# Altium integrated library NXP_60_26022015.IntLib: 1306 symbols (part 19 of 28)
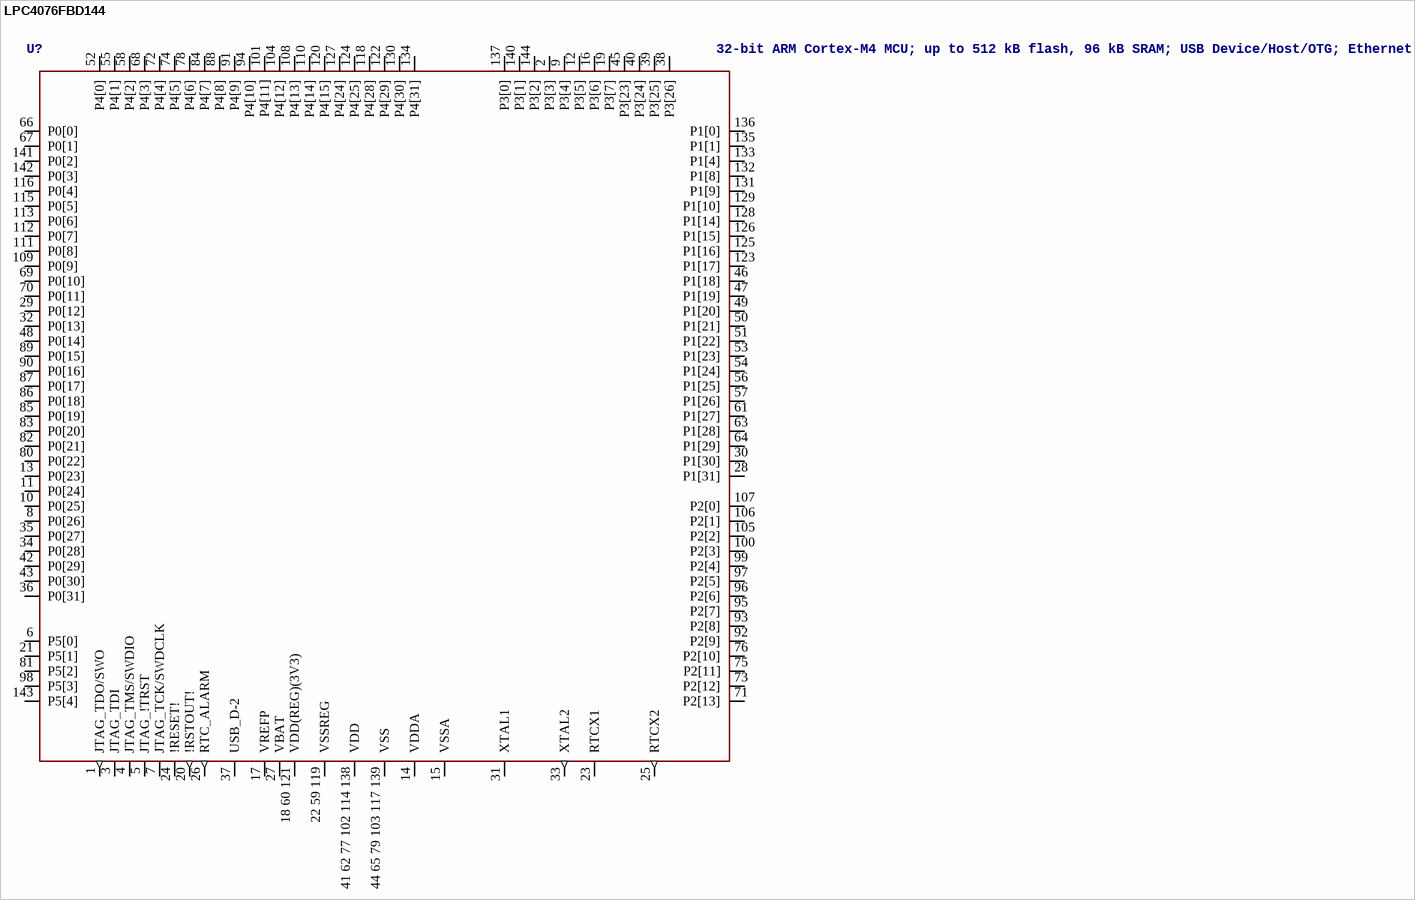
[diagram p203: symbol LPC4076FBD144]

## LPC4076FBD144
designator U?, comment 32-bit ARM Cortex-M4 MCU; up to 512 kB flash, 96 kB SRAM; USB Device/Host/OTG; Ethernet; LCD; EMC; SPIFI The LPC408x/7x is an ARM Cortex-M4 based digital signal controller for embedded applications requiring a high level of integration and low power dissipation. The ARM Cortex-M4 is a next generation core that offers system enhancements such as low power consumption, enhanced debug features, and a high level of support block integration. The ARM Cortex-M4 CPU incorporates a 3-stage pipeline, uses a Harvard architecture with separate local instruction and data buses as well as a third bus for peripherals, and includes an internal prefetch unit that supports speculative branching. The ARM Cortex-M4 supports single-cycle digital signal processing and SIMD instructions. A hardware floating-point processor is integrated in the core for several versions of the part. The LPC408x/7x adds a specialized flash memory accelerator to accomplish optimal performance when executing code from flash. The LPC408x/7x is targeted to operate at up to 120 MHz CPU frequency. The peripheral complement of the LPC408x/7x includes up to 512 kB of flash program memory, up to 96 kB of SRAM data memory, up to 4032 byte of EEPROM data memory, External Memory controller (EMC), LCD, Ethernet, USB Device/Host/OTG, an SPI Flash Interface (SPIFI), a General Purpose DMA controller, five UARTs, three SSP controllers, three I 2 C-bus interfaces, a Quadrature Encoder Interface, four general purpose timers, two general purpose PWMs with six outputs each and one motor control PWM, an ultra-low power RTC with separate battery supply and event recorder, a windowed watchdog timer, a CRC calculation engine and up to 165 general purpose I/O pins. The analog peripherals include one eight-channel 12-bit ADC, two analog comparators, and a DAC. The pinout of LPC408x/7x is intended to allow pin function compatibility with the LPC24xx/23xx as well as the LPC178x/7x families.    AAL Eindhoven MK
footprint SOT486-1
pins: 1 JTAG_TDO/SWO (out), 2 P3[3], 3 JTAG_TDI, 4 JTAG_TMS/SWDIO, 5 JTAG_!TRST, 6 P5[0], 7 JTAG_TCK/SWDCLK, 8 P0[26], 9 P3[4], 10 P0[25], 11 P0[24], 12 P3[5], 13 P0[23], 14 VDDA (power), 15 VSSA (power), 16 P3[6], 17 VREFP (power), 18 60 121 VDD(REG)(3V3) (power), 19 P3[7], 20 !RSTOUT! (out), 21 P5[1], 22 59 119 VSSREG (power), 23 RTCX1, 24 !RESET!, 25 RTCX2 (out), 26 RTC_ALARM (out), 27 VBAT (power), 28 P1[31], 29 P0[12], 30 P1[30], 31 XTAL1, 32 P0[13], 33 XTAL2 (out), 34 P0[28], 35 P0[27], 36 P0[31], 37 USB_D-2, 38 P3[26], 39 P3[25], 40 P3[24], 41 62 77 102 114 138 VDD (power), 42 P0[29], 43 P0[30], 44 65 79 103 117 139 VSS (power), 45 P3[23], 46 P1[18], 47 P1[19], 48 P0[14], 49 P1[20], 50 P1[21], 51 P1[22], 52 P4[0], 53 P1[23], 54 P1[24], 55 P4[1], 56 P1[25], 57 P1[26], 58 P4[2], 61 P1[27], 63 P1[28], 64 P1[29], 66 P0[0], 67 P0[1], 68 P4[3], 69 P0[10], 70 P0[11], 71 P2[13], 72 P4[4], 73 P2[12], 74 P4[5], 75 P2[11], 76 P2[10], 78 P4[6], 80 P0[22], 81 P5[2], 82 P0[21], 83 P0[20], 84 P4[7], 85 P0[19], 86 P0[18], 87 P0[17], 88 P4[8], 89 P0[15], 90 P0[16], 91 P4[9], 92 P2[9], 93 P2[8], 94 P4[10], 95 P2[7], 96 P2[6], 97 P2[5], 98 P5[3], 99 P2[4], 100 P2[3], 101 P4[11], 104 P4[12], 105 P2[2], 106 P2[1], 107 P2[0], 108 P4[13], 109 P0[9], 110 P4[14], 111 P0[8], 112 P0[7], 113 P0[6], 115 P0[5], 116 P0[4], 118 P4[28], 120 P4[15], 122 P4[29], 123 P1[17], 124 P4[25], 125 P1[16], 126 P1[15], 127 P4[24], 128 P1[14], 129 P1[10], 130 P4[30], 131 P1[9], 132 P1[8], 133 P1[4], 134 P4[31], 135 P1[1], 136 P1[0], 137 P3[0], 140 P3[1], 141 P0[2], 142 P0[3], 143 P5[4], 144 P3[2]

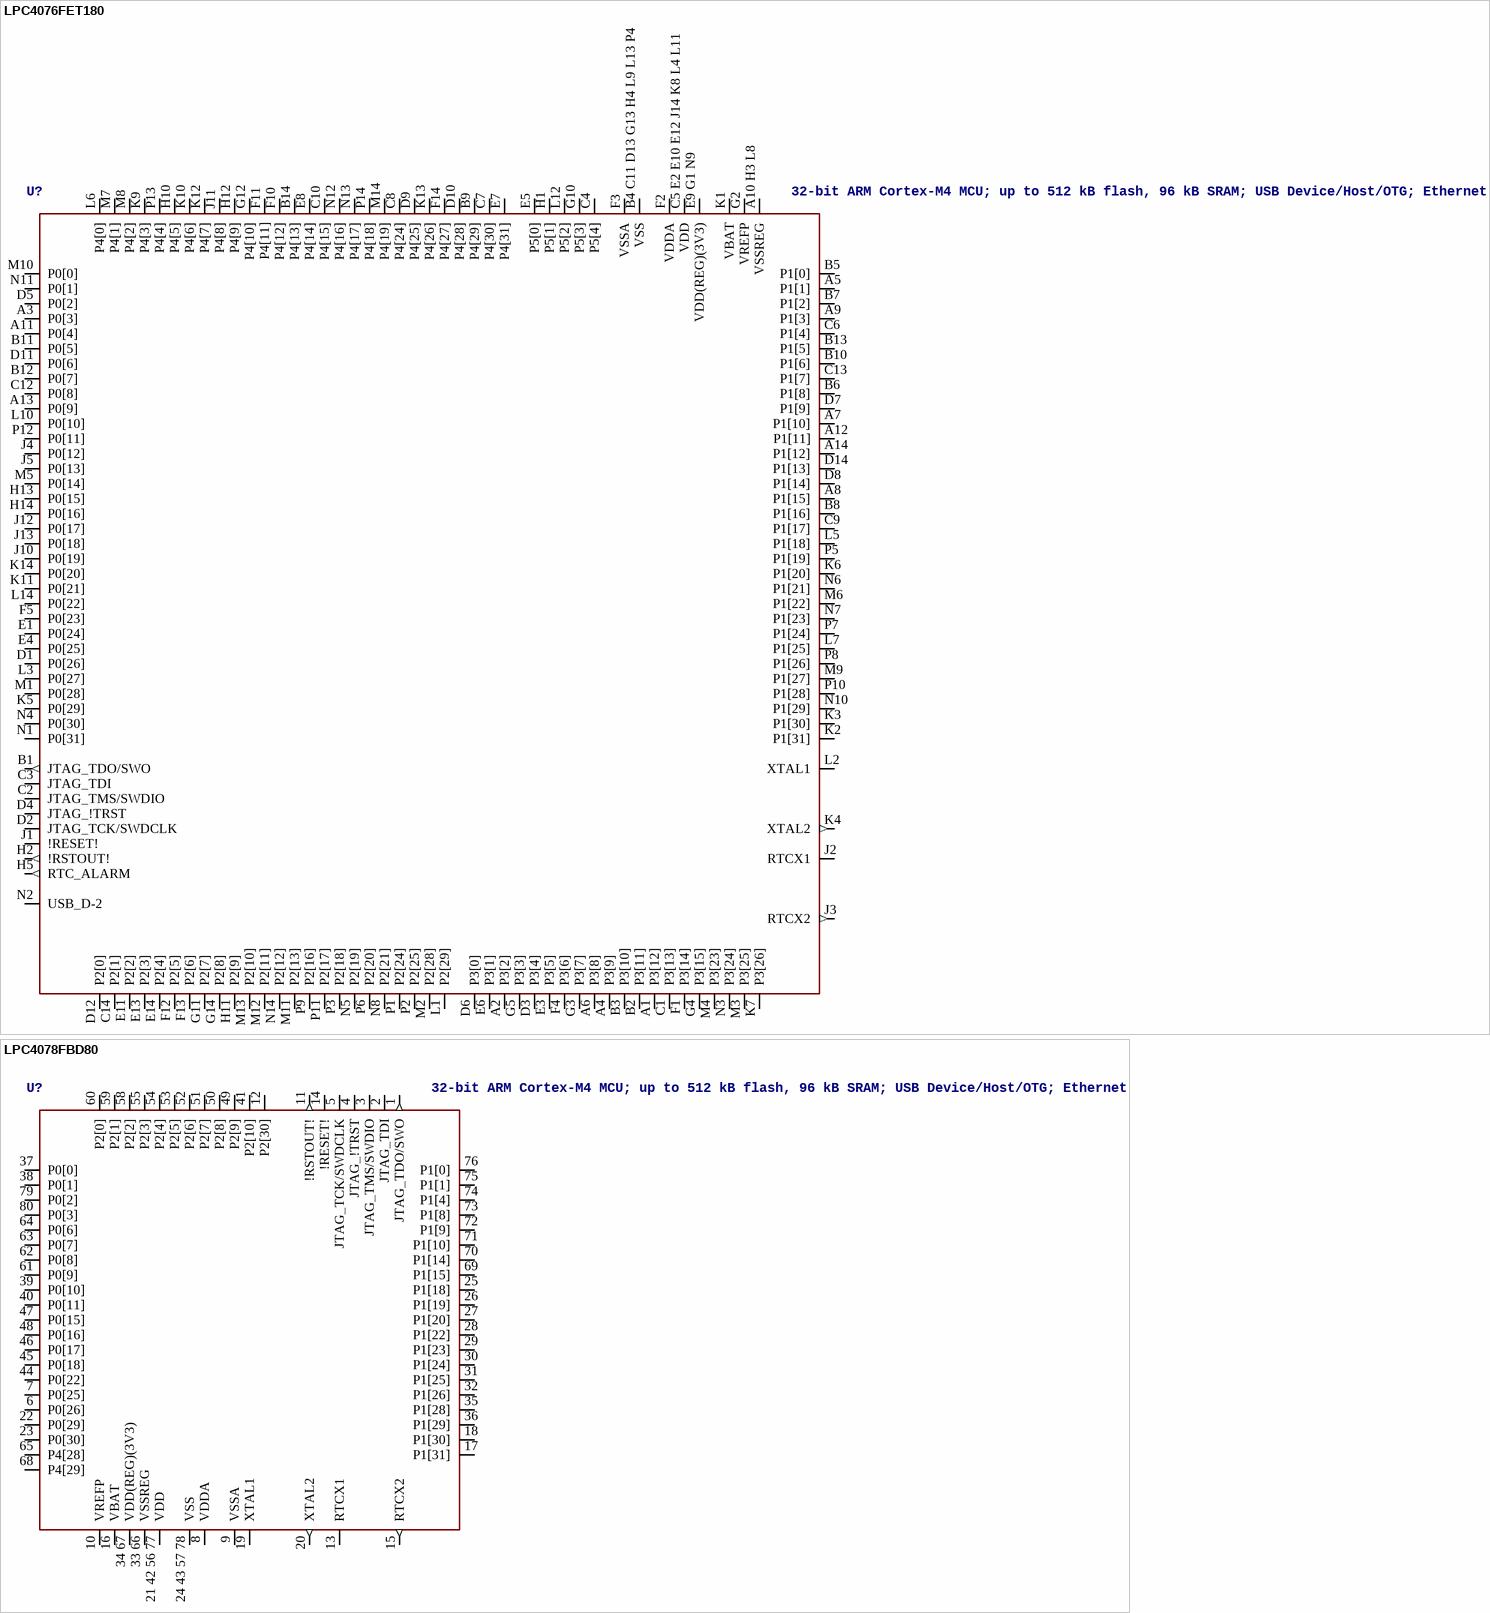
[diagram p121: symbols LPC4076FET180 to LPC4078FBD80]

## LPC4076FET180
designator U?, comment 32-bit ARM Cortex-M4 MCU; up to 512 kB flash, 96 kB SRAM; USB Device/Host/OTG; Ethernet; LCD; EMC; SPIFI The LPC408x/7x is an ARM Cortex-M4 based digital signal controller for embedded applications requiring a high level of integration and low power dissipation. The ARM Cortex-M4 is a next generation core that offers system enhancements such as low power consumption, enhanced debug features, and a high level of support block integration. The ARM Cortex-M4 CPU incorporates a 3-stage pipeline, uses a Harvard architecture with separate local instruction and data buses as well as a third bus for peripherals, and includes an internal prefetch unit that supports speculative branching. The ARM Cortex-M4 supports single-cycle digital signal processing and SIMD instructions. A hardware floating-point processor is integrated in the core for several versions of the part. The LPC408x/7x adds a specialized flash memory accelerator to accomplish optimal performance when executing code from flash. The LPC408x/7x is targeted to operate at up to 120 MHz CPU frequency. The peripheral complement of the LPC408x/7x includes up to 512 kB of flash program memory, up to 96 kB of SRAM data memory, up to 4032 byte of EEPROM data memory, External Memory controller (EMC), LCD, Ethernet, USB Device/Host/OTG, an SPI Flash Interface (SPIFI), a General Purpose DMA controller, five UARTs, three SSP controllers, three I 2 C-bus interfaces, a Quadrature Encoder Interface, four general purpose timers, two general purpose PWMs with six outputs each and one motor control PWM, an ultra-low power RTC with separate battery supply and event recorder, a windowed watchdog timer, a CRC calculation engine and up to 165 general purpose I/O pins. The analog peripherals include one eight-channel 12-bit ADC, two analog comparators, and a DAC. The pinout of LPC408x/7x is intended to allow pin function compatibility with the LPC24xx/23xx as well as the LPC178x/7x families.    AAL Eindhoven MK
footprint SOT570-2
pins: A1 P3[12], A2 P3[2], A3 P0[3], A4 P3[9], A5 P1[1], A6 P3[8], A7 P1[10], A8 P1[15], A9 P1[3], A10 H3 L8 VSSREG (power), A11 P0[4], A12 P1[11], A13 P0[9], A14 P1[12], B1 JTAG_TDO/SWO (out), B2 P3[11], B3 P3[10], B4 C11 D13 G13 H4 L9 L13 P4 VSS (power), B5 P1[0], B6 P1[8], B7 P1[2], B8 P1[16], B9 P4[29], B10 P1[6], B11 P0[5], B12 P0[7], B13 P1[5], B14 P4[13], C1 P3[13], C2 JTAG_TMS/SWDIO, C3 JTAG_TDI, C4 P5[4], C5 E2 E10 E12 J14 K8 L4 L11 VDD (power), C6 P1[4], C7 P4[30], C8 P4[24], C9 P1[17], C10 P4[15], C12 P0[8], C13 P1[7], C14 P2[1], D1 P0[26], D2 JTAG_TCK/SWDCLK, D3 P3[4], D4 JTAG_!TRST, D5 P0[2], D6 P3[0], D7 P1[9], D8 P1[14], D9 P4[25], D10 P4[28], D11 P0[6], D12 P2[0], D14 P1[13], E1 P0[24], E3 P3[5], E4 P0[25], E5 P5[0], E6 P3[1], E7 P4[31], E8 P4[14], E9 G1 N9 VDD(REG)(3V3) (power), E11 P2[2], E13 P2[3], E14 P2[4], F1 P3[14], F2 VDDA (power), F3 VSSA (power), F4 P3[6], F5 P0[23], F10 P4[12], F11 P4[11], F12 P2[5], F13 P2[6], F14 P4[27], G2 VREFP (power), G3 P3[7], G4 P3[15], G5 P3[3], G10 P5[3], G11 P2[7], G12 P4[10], G14 P2[8], H1 P5[1], H2 !RSTOUT! (out), H5 RTC_ALARM (out), H10 P4[5], H11 P2[9], H12 P4[9], H13 P0[15], H14 P0[16], J1 !RESET!, J2 RTCX1, J3 RTCX2 (out), J4 P0[12], J5 P0[13], J10 P0[19], J11 P4[8], J12 P0[17], J13 P0[18], K1 VBAT (power), K2 P1[31], K3 P1[30], K4 XTAL2 (out), K5 P0[29], K6 P1[20], K7 P3[26], K9 P4[3], K10 P4[6], K11 P0[21], K12 P4[7], K13 P4[26], K14 P0[20], L1 P2[29], L2 XTAL1, L3 P0[27], L5 P1[18], L6 P4[0], L7 P1[25], L10 P0[10], L12 P5[2], L14 P0[22], M1 P0[28], M2 P2[28], M3 P3[25], M4 P3[23], M5 P0[14], M6 P1[22], M7 P4[1], M8 P4[2], M9 P1[27], M10 P0[0], M11 P2[13], M12 P2[11], M13 P2[10], M14 P4[19], N1 P0[31], N2 USB_D-2, N3 P3[24], N4 P0[30], N5 P2[19], N6 P1[21], N7 P1[23], N8 P2[21], N10 P1[29], N11 P0[1], N12 P4[16], N13 P4[17], N14 P2[12], P1 P2[24], P2 P2[25], P3 P2[18], P5 P1[19], P6 P2[20], P7 P1[24], P8 P1[26], P9 P2[16], P10 P1[28], P11 P2[17], P12 P0[11], P13 P4[4], P14 P4[18]

## LPC4078FBD80
designator U?, comment 32-bit ARM Cortex-M4 MCU; up to 512 kB flash, 96 kB SRAM; USB Device/Host/OTG; Ethernet; LCD; EMC; SPIFI The LPC408x/7x is an ARM Cortex-M4 based digital signal controller for embedded applications requiring a high level of integration and low power dissipation. The ARM Cortex-M4 is a next generation core that offers system enhancements such as low power consumption, enhanced debug features, and a high level of support block integration. The ARM Cortex-M4 CPU incorporates a 3-stage pipeline, uses a Harvard architecture with separate local instruction and data buses as well as a third bus for peripherals, and includes an internal prefetch unit that supports speculative branching. The ARM Cortex-M4 supports single-cycle digital signal processing and SIMD instructions. A hardware floating-point processor is integrated in the core for several versions of the part. The LPC408x/7x adds a specialized flash memory accelerator to accomplish optimal performance when executing code from flash. The LPC408x/7x is targeted to operate at up to 120 MHz CPU frequency. The peripheral complement of the LPC408x/7x includes up to 512 kB of flash program memory, up to 96 kB of SRAM data memory, up to 4032 byte of EEPROM data memory, External Memory controller (EMC), LCD, Ethernet, USB Device/Host/OTG, an SPI Flash Interface (SPIFI), a General Purpose DMA controller, five UARTs, three SSP controllers, three I 2 C-bus interfaces, a Quadrature Encoder Interface, four general purpose timers, two general purpose PWMs with six outputs each and one motor control PWM, an ultra-low power RTC with separate battery supply and event recorder, a windowed watchdog timer, a CRC calculation engine and up to 165 general purpose I/O pins. The analog peripherals include one eight-channel 12-bit ADC, two analog comparators, and a DAC. The pinout of LPC408x/7x is intended to allow pin function compatibility with the LPC24xx/23xx as well as the LPC178x/7x families.    AAL Eindhoven MK
footprint SOT315-1
pins: 1 JTAG_TDO/SWO (out), 2 JTAG_TDI, 3 JTAG_TMS/SWDIO, 4 JTAG_!TRST, 5 JTAG_TCK/SWDCLK, 6 P0[26], 7 P0[25], 8 VDDA (power), 9 VSSA (power), 10 VREFP (power), 11 !RSTOUT! (out), 12 P2[30], 13 RTCX1, 14 !RESET!, 15 RTCX2 (out), 16 VBAT (power), 17 P1[31], 18 P1[30], 19 XTAL1, 20 XTAL2 (out), 21 42 56 77 VDD (power), 22 P0[29], 23 P0[30], 24 43 57 78 VSS (power), 25 P1[18], 26 P1[19], 27 P1[20], 28 P1[22], 29 P1[23], 30 P1[24], 31 P1[25], 32 P1[26], 33 66 VSSREG (power), 34 67 VDD(REG)(3V3) (power), 35 P1[28], 36 P1[29], 37 P0[0], 38 P0[1], 39 P0[10], 40 P0[11], 41 P2[10], 44 P0[22], 45 P0[18], 46 P0[17], 47 P0[15], 48 P0[16], 49 P2[9], 50 P2[8], 51 P2[7], 52 P2[6], 53 P2[5], 54 P2[4], 55 P2[3], 58 P2[2], 59 P2[1], 60 P2[0], 61 P0[9], 62 P0[8], 63 P0[7], 64 P0[6], 65 P4[28], 68 P4[29], 69 P1[15], 70 P1[14], 71 P1[10], 72 P1[9], 73 P1[8], 74 P1[4], 75 P1[1], 76 P1[0], 79 P0[2], 80 P0[3]

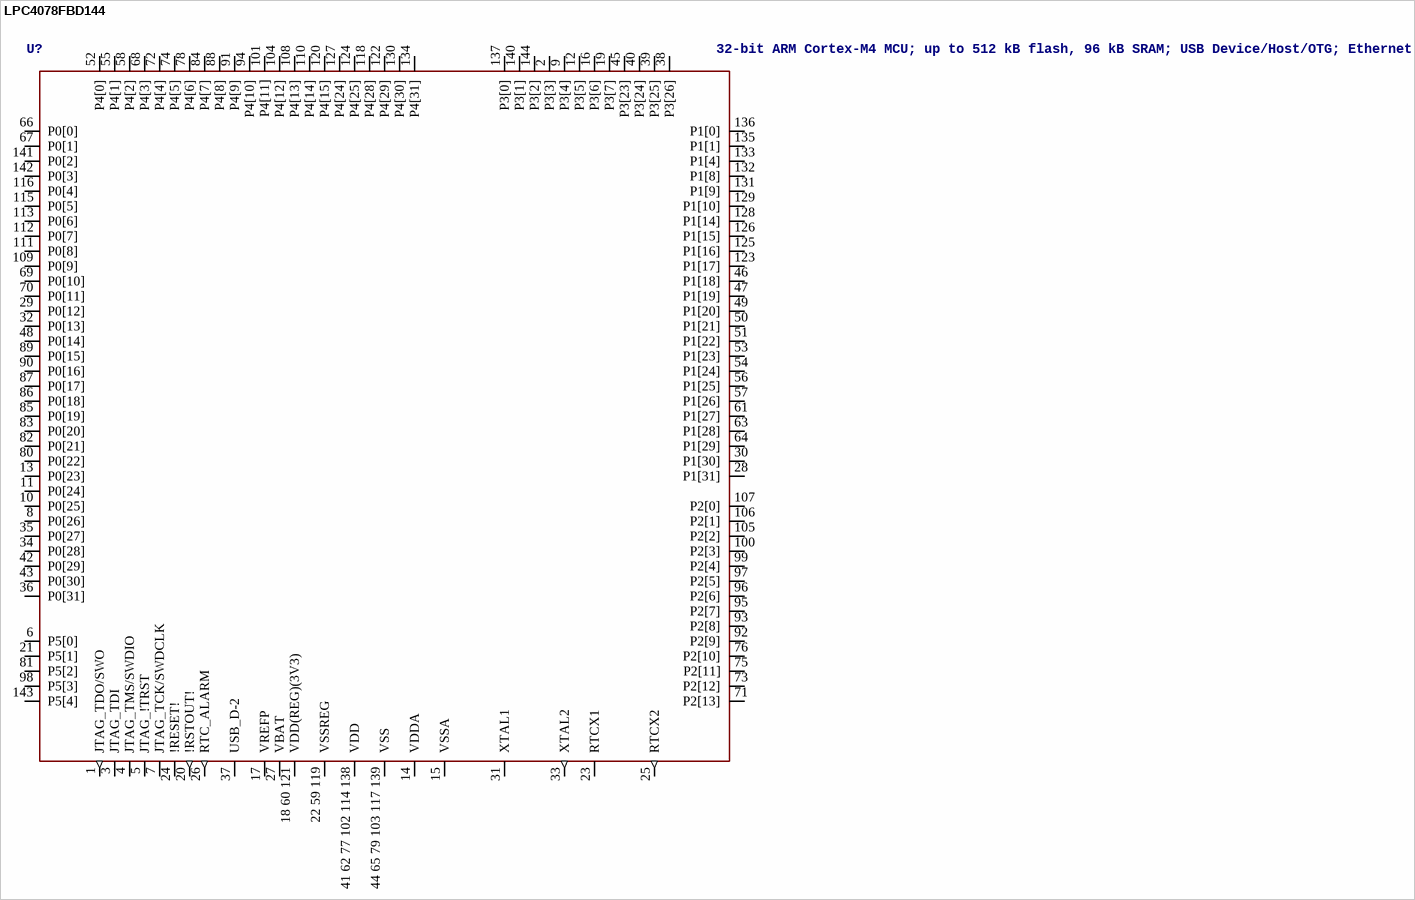
[diagram p122: symbol LPC4078FBD144]

## LPC4078FBD144
designator U?, comment 32-bit ARM Cortex-M4 MCU; up to 512 kB flash, 96 kB SRAM; USB Device/Host/OTG; Ethernet; LCD; EMC; SPIFI The LPC408x/7x is an ARM Cortex-M4 based digital signal controller for embedded applications requiring a high level of integration and low power dissipation. The ARM Cortex-M4 is a next generation core that offers system enhancements such as low power consumption, enhanced debug features, and a high level of support block integration. The ARM Cortex-M4 CPU incorporates a 3-stage pipeline, uses a Harvard architecture with separate local instruction and data buses as well as a third bus for peripherals, and includes an internal prefetch unit that supports speculative branching. The ARM Cortex-M4 supports single-cycle digital signal processing and SIMD instructions. A hardware floating-point processor is integrated in the core for several versions of the part. The LPC408x/7x adds a specialized flash memory accelerator to accomplish optimal performance when executing code from flash. The LPC408x/7x is targeted to operate at up to 120 MHz CPU frequency. The peripheral complement of the LPC408x/7x includes up to 512 kB of flash program memory, up to 96 kB of SRAM data memory, up to 4032 byte of EEPROM data memory, External Memory controller (EMC), LCD, Ethernet, USB Device/Host/OTG, an SPI Flash Interface (SPIFI), a General Purpose DMA controller, five UARTs, three SSP controllers, three I 2 C-bus interfaces, a Quadrature Encoder Interface, four general purpose timers, two general purpose PWMs with six outputs each and one motor control PWM, an ultra-low power RTC with separate battery supply and event recorder, a windowed watchdog timer, a CRC calculation engine and up to 165 general purpose I/O pins. The analog peripherals include one eight-channel 12-bit ADC, two analog comparators, and a DAC. The pinout of LPC408x/7x is intended to allow pin function compatibility with the LPC24xx/23xx as well as the LPC178x/7x families.    AAL Eindhoven MK
footprint SOT486-1
pins: 1 JTAG_TDO/SWO (out), 2 P3[3], 3 JTAG_TDI, 4 JTAG_TMS/SWDIO, 5 JTAG_!TRST, 6 P5[0], 7 JTAG_TCK/SWDCLK, 8 P0[26], 9 P3[4], 10 P0[25], 11 P0[24], 12 P3[5], 13 P0[23], 14 VDDA (power), 15 VSSA (power), 16 P3[6], 17 VREFP (power), 18 60 121 VDD(REG)(3V3) (power), 19 P3[7], 20 !RSTOUT! (out), 21 P5[1], 22 59 119 VSSREG (power), 23 RTCX1, 24 !RESET!, 25 RTCX2 (out), 26 RTC_ALARM (out), 27 VBAT (power), 28 P1[31], 29 P0[12], 30 P1[30], 31 XTAL1, 32 P0[13], 33 XTAL2 (out), 34 P0[28], 35 P0[27], 36 P0[31], 37 USB_D-2, 38 P3[26], 39 P3[25], 40 P3[24], 41 62 77 102 114 138 VDD (power), 42 P0[29], 43 P0[30], 44 65 79 103 117 139 VSS (power), 45 P3[23], 46 P1[18], 47 P1[19], 48 P0[14], 49 P1[20], 50 P1[21], 51 P1[22], 52 P4[0], 53 P1[23], 54 P1[24], 55 P4[1], 56 P1[25], 57 P1[26], 58 P4[2], 61 P1[27], 63 P1[28], 64 P1[29], 66 P0[0], 67 P0[1], 68 P4[3], 69 P0[10], 70 P0[11], 71 P2[13], 72 P4[4], 73 P2[12], 74 P4[5], 75 P2[11], 76 P2[10], 78 P4[6], 80 P0[22], 81 P5[2], 82 P0[21], 83 P0[20], 84 P4[7], 85 P0[19], 86 P0[18], 87 P0[17], 88 P4[8], 89 P0[15], 90 P0[16], 91 P4[9], 92 P2[9], 93 P2[8], 94 P4[10], 95 P2[7], 96 P2[6], 97 P2[5], 98 P5[3], 99 P2[4], 100 P2[3], 101 P4[11], 104 P4[12], 105 P2[2], 106 P2[1], 107 P2[0], 108 P4[13], 109 P0[9], 110 P4[14], 111 P0[8], 112 P0[7], 113 P0[6], 115 P0[5], 116 P0[4], 118 P4[28], 120 P4[15], 122 P4[29], 123 P1[17], 124 P4[25], 125 P1[16], 126 P1[15], 127 P4[24], 128 P1[14], 129 P1[10], 130 P4[30], 131 P1[9], 132 P1[8], 133 P1[4], 134 P4[31], 135 P1[1], 136 P1[0], 137 P3[0], 140 P3[1], 141 P0[2], 142 P0[3], 143 P5[4], 144 P3[2]

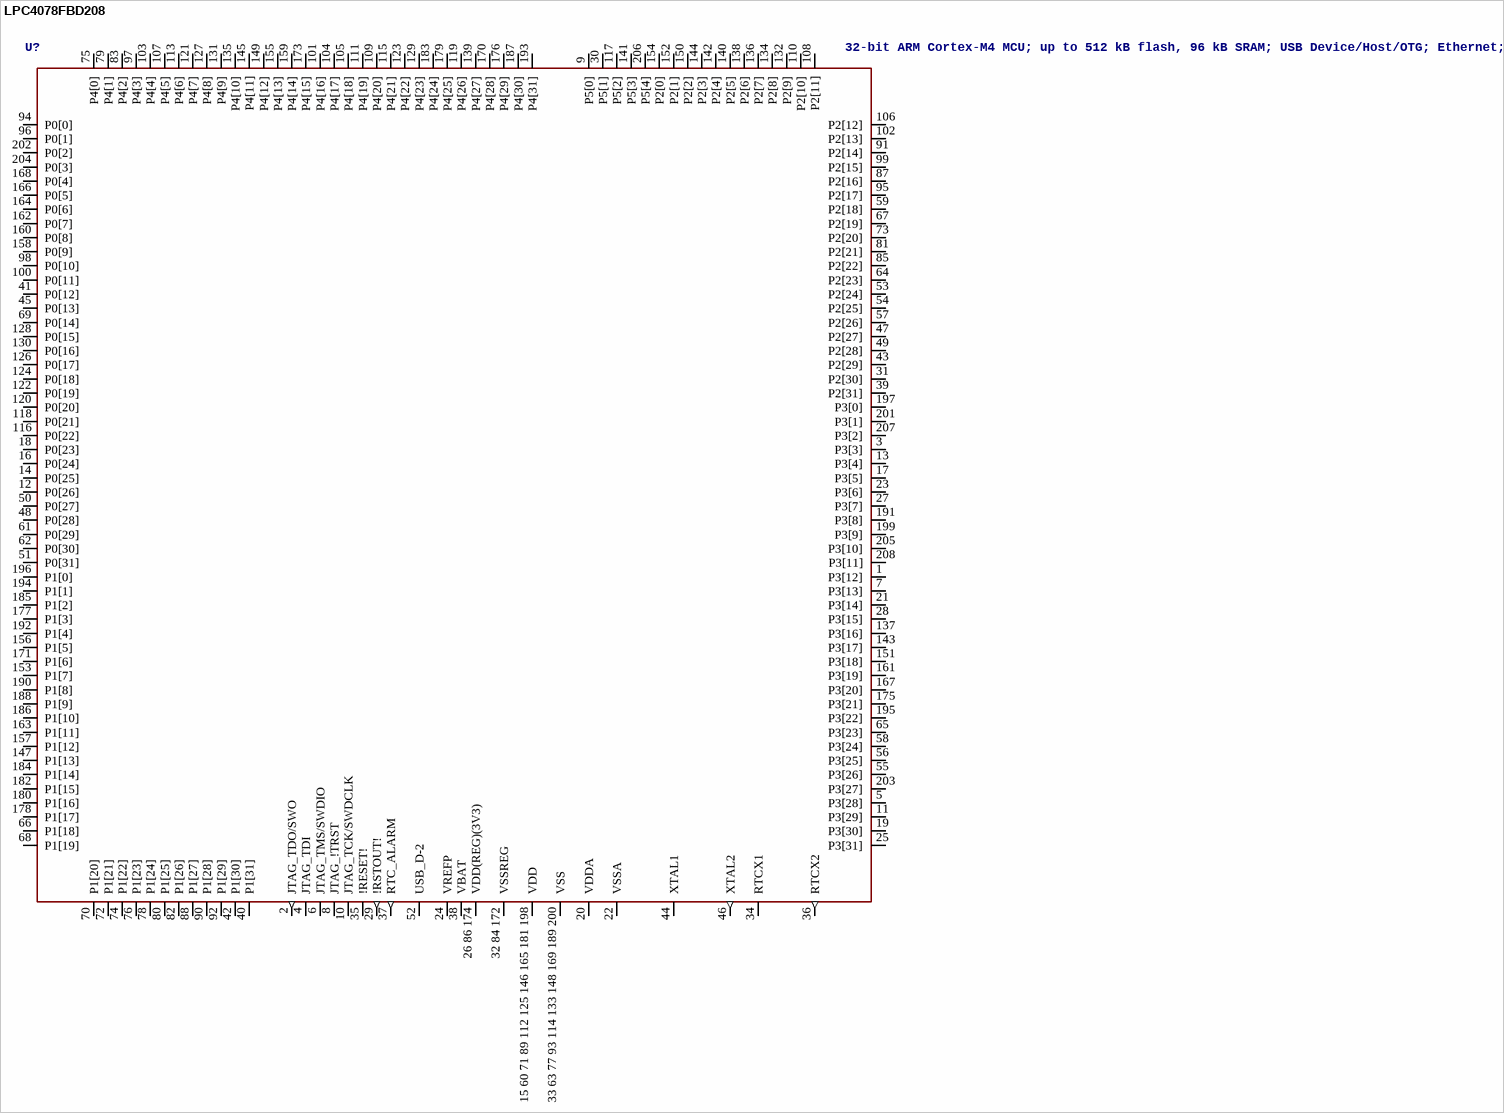
[diagram p123: symbol LPC4078FBD208]

## LPC4078FBD208
designator U?, comment 32-bit ARM Cortex-M4 MCU; up to 512 kB flash, 96 kB SRAM; USB Device/Host/OTG; Ethernet; LCD; EMC; SPIFI The LPC408x/7x is an ARM Cortex-M4 based digital signal controller for embedded applications requiring a high level of integration and low power dissipation. The ARM Cortex-M4 is a next generation core that offers system enhancements such as low power consumption, enhanced debug features, and a high level of support block integration. The ARM Cortex-M4 CPU incorporates a 3-stage pipeline, uses a Harvard architecture with separate local instruction and data buses as well as a third bus for peripherals, and includes an internal prefetch unit that supports speculative branching. The ARM Cortex-M4 supports single-cycle digital signal processing and SIMD instructions. A hardware floating-point processor is integrated in the core for several versions of the part. The LPC408x/7x adds a specialized flash memory accelerator to accomplish optimal performance when executing code from flash. The LPC408x/7x is targeted to operate at up to 120 MHz CPU frequency. The peripheral complement of the LPC408x/7x includes up to 512 kB of flash program memory, up to 96 kB of SRAM data memory, up to 4032 byte of EEPROM data memory, External Memory controller (EMC), LCD, Ethernet, USB Device/Host/OTG, an SPI Flash Interface (SPIFI), a General Purpose DMA controller, five UARTs, three SSP controllers, three I 2 C-bus interfaces, a Quadrature Encoder Interface, four general purpose timers, two general purpose PWMs with six outputs each and one motor control PWM, an ultra-low power RTC with separate battery supply and event recorder, a windowed watchdog timer, a CRC calculation engine and up to 165 general purpose I/O pins. The analog peripherals include one eight-channel 12-bit ADC, two analog comparators, and a DAC. The pinout of LPC408x/7x is intended to allow pin function compatibility with the LPC24xx/23xx as well as the LPC178x/7x families.    AAL Eindhoven MK
footprint SOT459-1
pins: 1 P3[12], 2 JTAG_TDO/SWO (out), 3 P3[3], 4 JTAG_TDI, 5 P3[28], 6 JTAG_TMS/SWDIO, 7 P3[13], 8 JTAG_!TRST, 9 P5[0], 10 JTAG_TCK/SWDCLK, 11 P3[29], 12 P0[26], 13 P3[4], 14 P0[25], 15 60 71 89 112 125 146 165 181 198 VDD (power), 16 P0[24], 17 P3[5], 18 P0[23], 19 P3[30], 20 VDDA (power), 21 P3[14], 22 VSSA (power), 23 P3[6], 24 VREFP (power), 25 P3[31], 26 86 174 VDD(REG)(3V3) (power), 27 P3[7], 28 P3[15], 29 !RSTOUT! (out), 30 P5[1], 31 P2[30], 32 84 172 VSSREG (power), 33 63 77 93 114 133 148 169 189 200 VSS (power), 34 RTCX1, 35 !RESET!, 36 RTCX2 (out), 37 RTC_ALARM (out), 38 VBAT (power), 39 P2[31], 40 P1[31], 41 P0[12], 42 P1[30], 43 P2[29], 44 XTAL1, 45 P0[13], 46 XTAL2 (out), 47 P2[27], 48 P0[28], 49 P2[28], 50 P0[27], 51 P0[31], 52 USB_D-2, 53 P2[24], 54 P2[25], 55 P3[26], 56 P3[25], 57 P2[26], 58 P3[24], 59 P2[18], 61 P0[29], 62 P0[30], 64 P2[23], 65 P3[23], 66 P1[18], 67 P2[19], 68 P1[19], 69 P0[14], 70 P1[20], 72 P1[21], 73 P2[20], 74 P1[22], 75 P4[0], 76 P1[23], 78 P1[24], 79 P4[1], 80 P1[25], 81 P2[21], 82 P1[26], 83 P4[2], 85 P2[22], 87 P2[16], 88 P1[27], 90 P1[28], 91 P2[14], 92 P1[29], 94 P0[0], 95 P2[17], 96 P0[1], 97 P4[3], 98 P0[10], 99 P2[15], 100 P0[11], 101 P4[16], 102 P2[13], 103 P4[4], 104 P4[17], 105 P4[18], 106 P2[12], 107 P4[5], 108 P2[11], 109 P4[20], 110 P2[10], 111 P4[19], 113 P4[6], 115 P4[21], 116 P0[22], 117 P5[2], 118 P0[21], 119 P4[26], 120 P0[20], 121 P4[7], 122 P0[19], 123 P4[22], 124 P0[18], 126 P0[17], 127 P4[8], 128 P0[15], 129 P4[23], 130 P0[16], 131 P4[9], 132 P2[9], 134 P2[8], 135 P4[10], 136 P2[7], 137 P3[16], 138 P2[6], 139 P4[27], 140 P2[5], 141 P5[3], 142 P2[4], 143 P3[17], 144 P2[3], 145 P4[11], 147 P1[13], 149 P4[12], 150 P2[2], 151 P3[18], 152 P2[1], 153 P1[7], 154 P2[0], 155 P4[13], 156 P1[5], 157 P1[12], 158 P0[9], 159 P4[14], 160 P0[8], 161 P3[19], 162 P0[7], 163 P1[11], 164 P0[6], 166 P0[5], 167 P3[20], 168 P0[4], 170 P4[28], 171 P1[6], 173 P4[15], 175 P3[21], 176 P4[29], 177 P1[3], 178 P1[17], 179 P4[25], 180 P1[16], 182 P1[15], 183 P4[24], 184 P1[14], 185 P1[2], 186 P1[10], 187 P4[30], 188 P1[9], 190 P1[8], 191 P3[8], 192 P1[4], 193 P4[31], 194 P1[1], 195 P3[22], 196 P1[0], 197 P3[0], 199 P3[9], 201 P3[1], 202 P0[2], 203 P3[27], 204 P0[3], 205 P3[10], 206 P5[4], 207 P3[2], 208 P3[11]

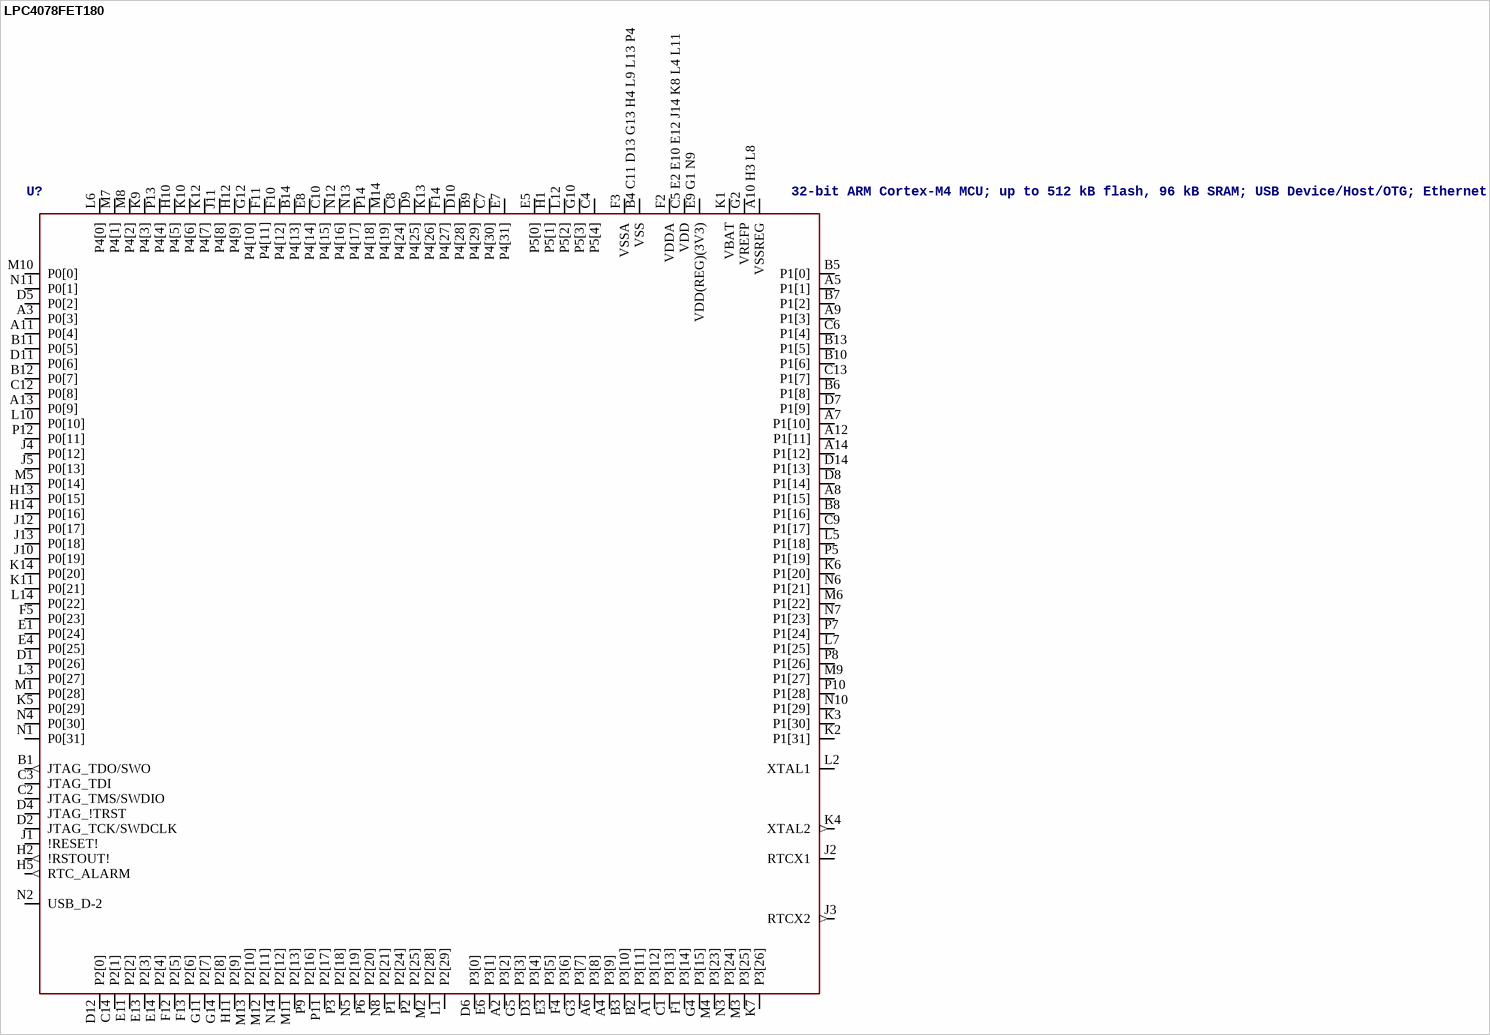
[diagram p124: symbol LPC4078FET180]

## LPC4078FET180
designator U?, comment 32-bit ARM Cortex-M4 MCU; up to 512 kB flash, 96 kB SRAM; USB Device/Host/OTG; Ethernet; LCD; EMC; SPIFI The LPC408x/7x is an ARM Cortex-M4 based digital signal controller for embedded applications requiring a high level of integration and low power dissipation. The ARM Cortex-M4 is a next generation core that offers system enhancements such as low power consumption, enhanced debug features, and a high level of support block integration. The ARM Cortex-M4 CPU incorporates a 3-stage pipeline, uses a Harvard architecture with separate local instruction and data buses as well as a third bus for peripherals, and includes an internal prefetch unit that supports speculative branching. The ARM Cortex-M4 supports single-cycle digital signal processing and SIMD instructions. A hardware floating-point processor is integrated in the core for several versions of the part. The LPC408x/7x adds a specialized flash memory accelerator to accomplish optimal performance when executing code from flash. The LPC408x/7x is targeted to operate at up to 120 MHz CPU frequency. The peripheral complement of the LPC408x/7x includes up to 512 kB of flash program memory, up to 96 kB of SRAM data memory, up to 4032 byte of EEPROM data memory, External Memory controller (EMC), LCD, Ethernet, USB Device/Host/OTG, an SPI Flash Interface (SPIFI), a General Purpose DMA controller, five UARTs, three SSP controllers, three I 2 C-bus interfaces, a Quadrature Encoder Interface, four general purpose timers, two general purpose PWMs with six outputs each and one motor control PWM, an ultra-low power RTC with separate battery supply and event recorder, a windowed watchdog timer, a CRC calculation engine and up to 165 general purpose I/O pins. The analog peripherals include one eight-channel 12-bit ADC, two analog comparators, and a DAC. The pinout of LPC408x/7x is intended to allow pin function compatibility with the LPC24xx/23xx as well as the LPC178x/7x families.    AAL Eindhoven MK
footprint SOT570-2
pins: A1 P3[12], A2 P3[2], A3 P0[3], A4 P3[9], A5 P1[1], A6 P3[8], A7 P1[10], A8 P1[15], A9 P1[3], A10 H3 L8 VSSREG (power), A11 P0[4], A12 P1[11], A13 P0[9], A14 P1[12], B1 JTAG_TDO/SWO (out), B2 P3[11], B3 P3[10], B4 C11 D13 G13 H4 L9 L13 P4 VSS (power), B5 P1[0], B6 P1[8], B7 P1[2], B8 P1[16], B9 P4[29], B10 P1[6], B11 P0[5], B12 P0[7], B13 P1[5], B14 P4[13], C1 P3[13], C2 JTAG_TMS/SWDIO, C3 JTAG_TDI, C4 P5[4], C5 E2 E10 E12 J14 K8 L4 L11 VDD (power), C6 P1[4], C7 P4[30], C8 P4[24], C9 P1[17], C10 P4[15], C12 P0[8], C13 P1[7], C14 P2[1], D1 P0[26], D2 JTAG_TCK/SWDCLK, D3 P3[4], D4 JTAG_!TRST, D5 P0[2], D6 P3[0], D7 P1[9], D8 P1[14], D9 P4[25], D10 P4[28], D11 P0[6], D12 P2[0], D14 P1[13], E1 P0[24], E3 P3[5], E4 P0[25], E5 P5[0], E6 P3[1], E7 P4[31], E8 P4[14], E9 G1 N9 VDD(REG)(3V3) (power), E11 P2[2], E13 P2[3], E14 P2[4], F1 P3[14], F2 VDDA (power), F3 VSSA (power), F4 P3[6], F5 P0[23], F10 P4[12], F11 P4[11], F12 P2[5], F13 P2[6], F14 P4[27], G2 VREFP (power), G3 P3[7], G4 P3[15], G5 P3[3], G10 P5[3], G11 P2[7], G12 P4[10], G14 P2[8], H1 P5[1], H2 !RSTOUT! (out), H5 RTC_ALARM (out), H10 P4[5], H11 P2[9], H12 P4[9], H13 P0[15], H14 P0[16], J1 !RESET!, J2 RTCX1, J3 RTCX2 (out), J4 P0[12], J5 P0[13], J10 P0[19], J11 P4[8], J12 P0[17], J13 P0[18], K1 VBAT (power), K2 P1[31], K3 P1[30], K4 XTAL2 (out), K5 P0[29], K6 P1[20], K7 P3[26], K9 P4[3], K10 P4[6], K11 P0[21], K12 P4[7], K13 P4[26], K14 P0[20], L1 P2[29], L2 XTAL1, L3 P0[27], L5 P1[18], L6 P4[0], L7 P1[25], L10 P0[10], L12 P5[2], L14 P0[22], M1 P0[28], M2 P2[28], M3 P3[25], M4 P3[23], M5 P0[14], M6 P1[22], M7 P4[1], M8 P4[2], M9 P1[27], M10 P0[0], M11 P2[13], M12 P2[11], M13 P2[10], M14 P4[19], N1 P0[31], N2 USB_D-2, N3 P3[24], N4 P0[30], N5 P2[19], N6 P1[21], N7 P1[23], N8 P2[21], N10 P1[29], N11 P0[1], N12 P4[16], N13 P4[17], N14 P2[12], P1 P2[24], P2 P2[25], P3 P2[18], P5 P1[19], P6 P2[20], P7 P1[24], P8 P1[26], P9 P2[16], P10 P1[28], P11 P2[17], P12 P0[11], P13 P4[4], P14 P4[18]

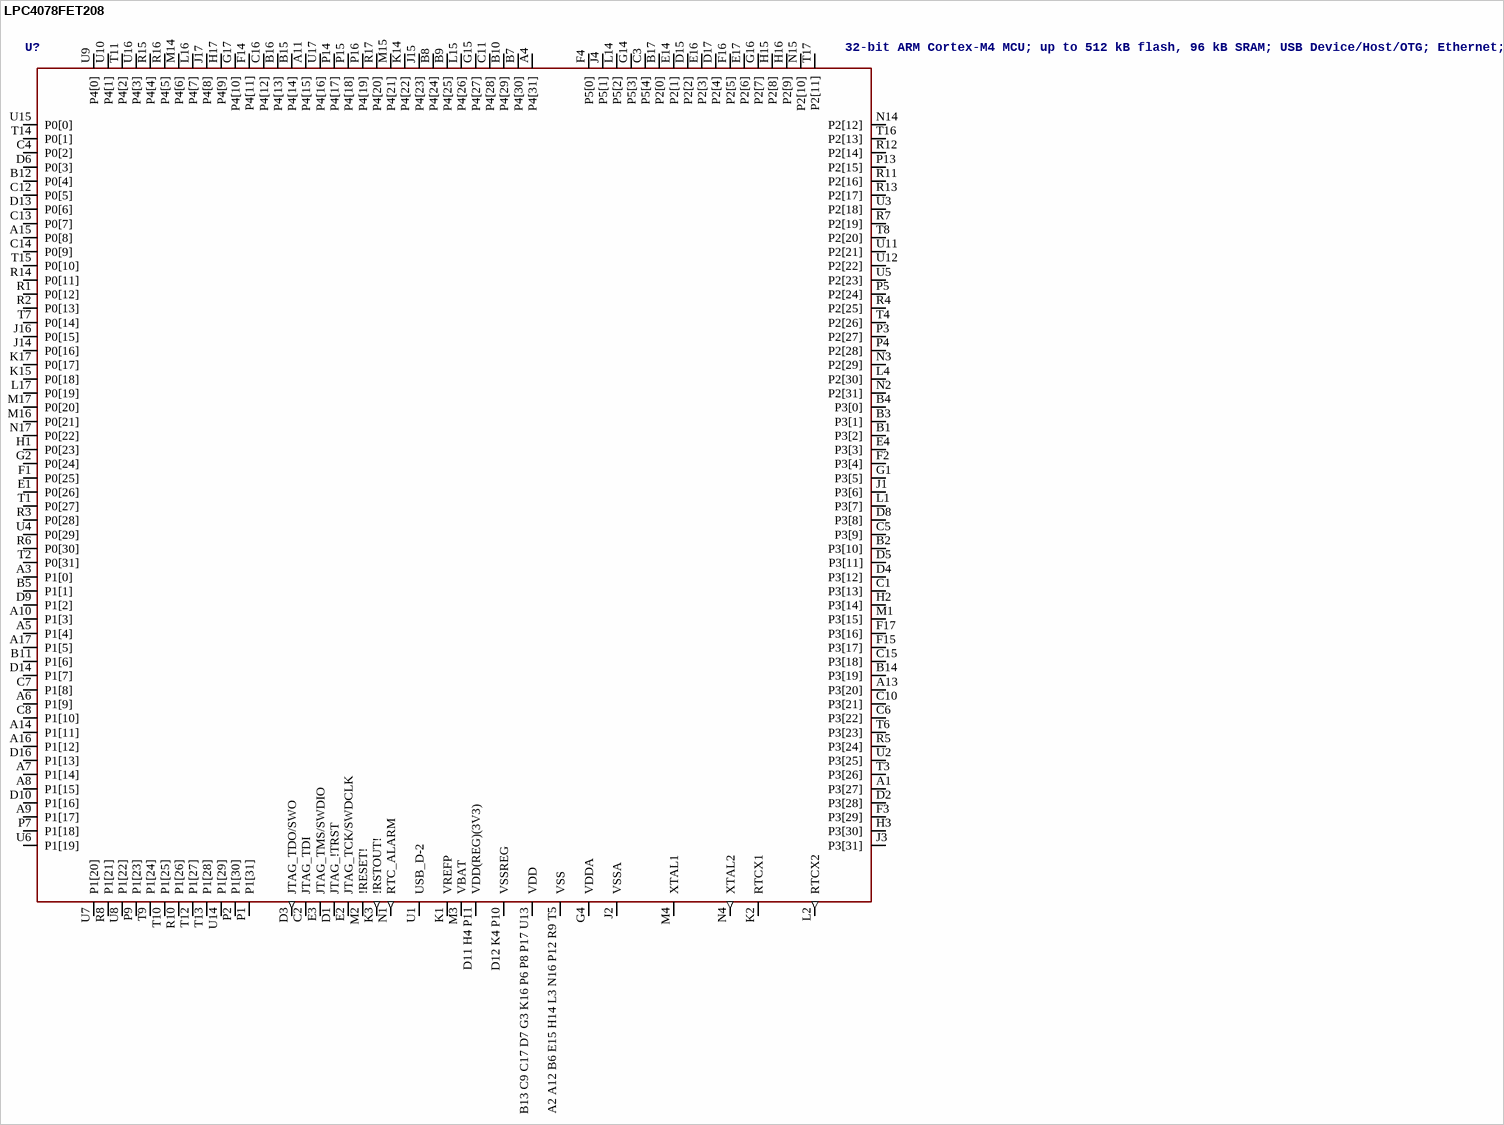
[diagram p125: symbol LPC4078FET208]

## LPC4078FET208
designator U?, comment 32-bit ARM Cortex-M4 MCU; up to 512 kB flash, 96 kB SRAM; USB Device/Host/OTG; Ethernet; LCD; EMC; SPIFI The LPC408x/7x is an ARM Cortex-M4 based digital signal controller for embedded applications requiring a high level of integration and low power dissipation. The ARM Cortex-M4 is a next generation core that offers system enhancements such as low power consumption, enhanced debug features, and a high level of support block integration. The ARM Cortex-M4 CPU incorporates a 3-stage pipeline, uses a Harvard architecture with separate local instruction and data buses as well as a third bus for peripherals, and includes an internal prefetch unit that supports speculative branching. The ARM Cortex-M4 supports single-cycle digital signal processing and SIMD instructions. A hardware floating-point processor is integrated in the core for several versions of the part. The LPC408x/7x adds a specialized flash memory accelerator to accomplish optimal performance when executing code from flash. The LPC408x/7x is targeted to operate at up to 120 MHz CPU frequency. The peripheral complement of the LPC408x/7x includes up to 512 kB of flash program memory, up to 96 kB of SRAM data memory, up to 4032 byte of EEPROM data memory, External Memory controller (EMC), LCD, Ethernet, USB Device/Host/OTG, an SPI Flash Interface (SPIFI), a General Purpose DMA controller, five UARTs, three SSP controllers, three I 2 C-bus interfaces, a Quadrature Encoder Interface, four general purpose timers, two general purpose PWMs with six outputs each and one motor control PWM, an ultra-low power RTC with separate battery supply and event recorder, a windowed watchdog timer, a CRC calculation engine and up to 165 general purpose I/O pins. The analog peripherals include one eight-channel 12-bit ADC, two analog comparators, and a DAC. The pinout of LPC408x/7x is intended to allow pin function compatibility with the LPC24xx/23xx as well as the LPC178x/7x families.    AAL Eindhoven MK
footprint SOT950-1
pins: A1 P3[27], A2 A12 B6 E15 H14 L3 N16 P12 R9 T5 VSS (power), A3 P1[0], A4 P4[31], A5 P1[4], A6 P1[9], A7 P1[14], A8 P1[15], A9 P1[17], A10 P1[3], A11 P4[15], A13 P3[20], A14 P1[11], A15 P0[8], A16 P1[12], A17 P1[5], B1 P3[2], B2 P3[10], B3 P3[1], B4 P3[0], B5 P1[1], B7 P4[30], B8 P4[24], B9 P4[25], B10 P4[29], B11 P1[6], B12 P0[4], B13 C9 C17 D7 G3 K16 P6 P8 P17 U13 VDD (power), B14 P3[19], B15 P4[14], B16 P4[13], B17 P2[0], C1 P3[13], C2 JTAG_TDI, C3 P5[4], C4 P0[2], C5 P3[9], C6 P3[22], C7 P1[8], C8 P1[10], C10 P3[21], C11 P4[28], C12 P0[5], C13 P0[7], C14 P0[9], C15 P3[18], C16 P4[12], D1 JTAG_!TRST, D2 P3[28], D3 JTAG_TDO/SWO (out), D4 P3[12], D5 P3[11], D6 P0[3], D8 P3[8], D9 P1[2], D10 P1[16], D11 H4 P11 VDD(REG)(3V3) (power), D12 K4 P10 VSSREG (power), D13 P0[6], D14 P1[7], D15 P2[2], D16 P1[13], D17 P2[4], E1 P0[26], E2 JTAG_TCK/SWDCLK, E3 JTAG_TMS/SWDIO, E4 P3[3], E14 P2[1], E16 P2[3], E17 P2[6], F1 P0[25], F2 P3[4], F3 P3[29], F4 P5[0], F14 P4[11], F15 P3[17], F16 P2[5], F17 P3[16], G1 P3[5], G2 P0[24], G4 VDDA (power), G14 P5[3], G15 P4[27], G16 P2[7], G17 P4[10], H1 P0[23], H2 P3[14], H3 P3[30], H15 P2[8], H16 P2[9], H17 P4[9], J1 P3[6], J2 VSSA (power), J3 P3[31], J4 P5[1], J14 P0[16], J15 P4[23], J16 P0[15], J17 P4[8], K1 VREFP (power), K2 RTCX1, K3 !RSTOUT! (out), K14 P4[22], K15 P0[18], K17 P0[17], L1 P3[7], L2 RTCX2 (out), L4 P2[30], L14 P5[2], L15 P4[26], L16 P4[7], L17 P0[19], M1 P3[15], M2 !RESET!, M3 VBAT (power), M4 XTAL1, M14 P4[6], M15 P4[21], M16 P0[21], M17 P0[20], N1 RTC_ALARM (out), N2 P2[31], N3 P2[29], N4 XTAL2 (out), N14 P2[12], N15 P2[10], N17 P0[22], P1 P1[31], P2 P1[30], P3 P2[27], P4 P2[28], P5 P2[24], P7 P1[18], P9 P1[23], P13 P2[15], P14 P4[17], P15 P4[18], P16 P4[19], R1 P0[12], R2 P0[13], R3 P0[28], R4 P2[25], R5 P3[24], R6 P0[30], R7 P2[19], R8 P1[21], R10 P1[26], R11 P2[16], R12 P2[14], R13 P2[17], R14 P0[11], R15 P4[4], R16 P4[5], R17 P4[20], T1 P0[27], T2 P0[31], T3 P3[26], T4 P2[26], T6 P3[23], T7 P0[14], T8 P2[20], T9 P1[24], T10 P1[25], T11 P4[2], T12 P1[27], T13 P1[28], T14 P0[1], T15 P0[10], T16 P2[13], T17 P2[11], U1 USB_D-2, U2 P3[25], U3 P2[18], U4 P0[29], U5 P2[23], U6 P1[19], U7 P1[20], U8 P1[22], U9 P4[0], U10 P4[1], U11 P2[21], U12 P2[22], U14 P1[29], U15 P0[0], U16 P4[3], U17 P4[16]

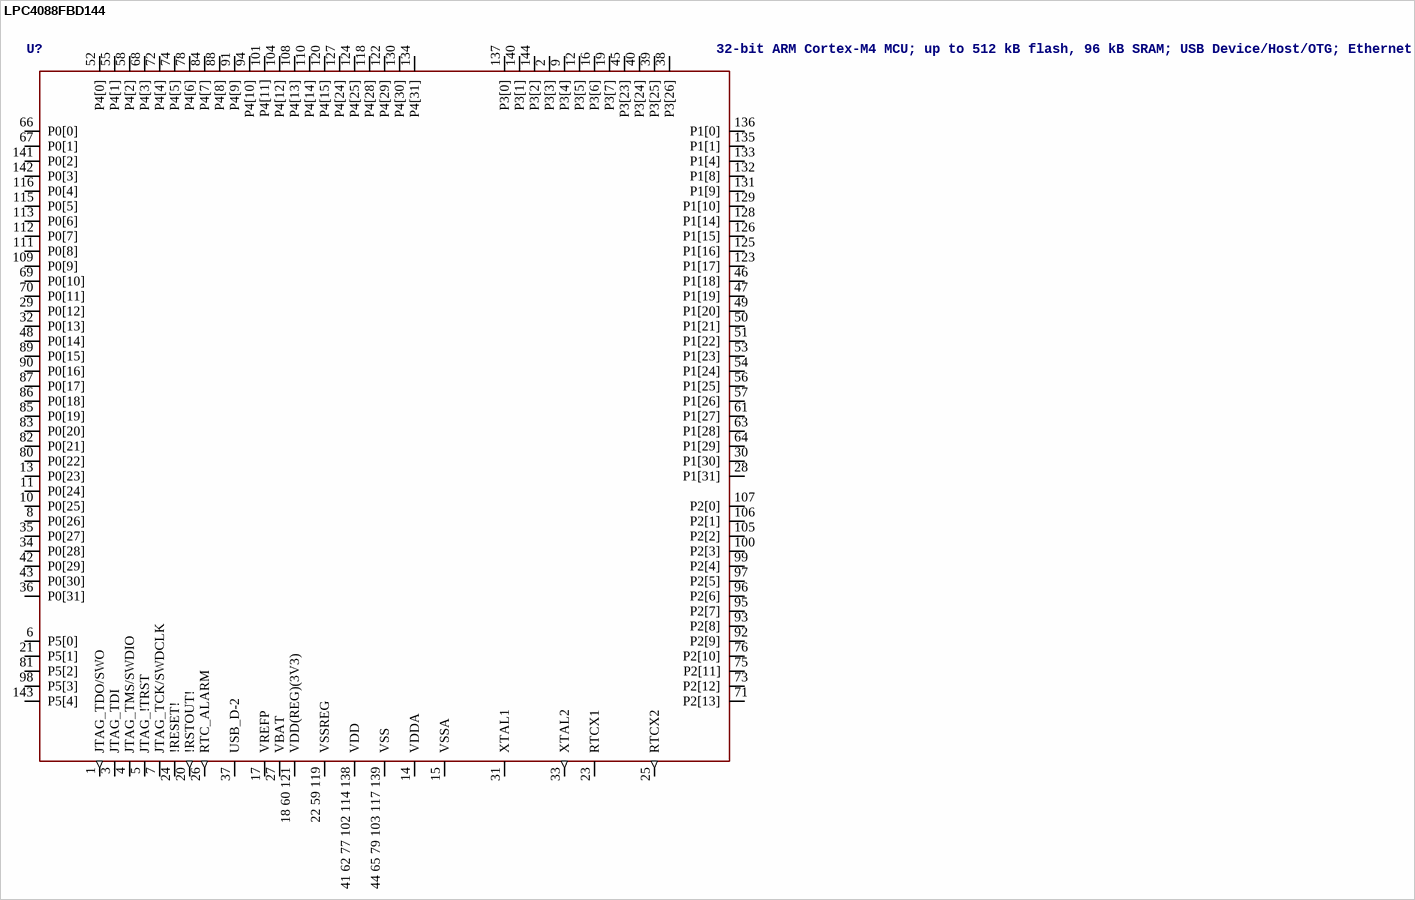
[diagram p126: symbol LPC4088FBD144]

## LPC4088FBD144
designator U?, comment 32-bit ARM Cortex-M4 MCU; up to 512 kB flash, 96 kB SRAM; USB Device/Host/OTG; Ethernet; LCD; EMC; SPIFI The LPC408x/7x is an ARM Cortex-M4 based digital signal controller for embedded applications requiring a high level of integration and low power dissipation. The ARM Cortex-M4 is a next generation core that offers system enhancements such as low power consumption, enhanced debug features, and a high level of support block integration. The ARM Cortex-M4 CPU incorporates a 3-stage pipeline, uses a Harvard architecture with separate local instruction and data buses as well as a third bus for peripherals, and includes an internal prefetch unit that supports speculative branching. The ARM Cortex-M4 supports single-cycle digital signal processing and SIMD instructions. A hardware floating-point processor is integrated in the core for several versions of the part. The LPC408x/7x adds a specialized flash memory accelerator to accomplish optimal performance when executing code from flash. The LPC408x/7x is targeted to operate at up to 120 MHz CPU frequency. The peripheral complement of the LPC408x/7x includes up to 512 kB of flash program memory, up to 96 kB of SRAM data memory, up to 4032 byte of EEPROM data memory, External Memory controller (EMC), LCD, Ethernet, USB Device/Host/OTG, an SPI Flash Interface (SPIFI), a General Purpose DMA controller, five UARTs, three SSP controllers, three I 2 C-bus interfaces, a Quadrature Encoder Interface, four general purpose timers, two general purpose PWMs with six outputs each and one motor control PWM, an ultra-low power RTC with separate battery supply and event recorder, a windowed watchdog timer, a CRC calculation engine and up to 165 general purpose I/O pins. The analog peripherals include one eight-channel 12-bit ADC, two analog comparators, and a DAC. The pinout of LPC408x/7x is intended to allow pin function compatibility with the LPC24xx/23xx as well as the LPC178x/7x families.    AAL Eindhoven MK
footprint SOT486-1
pins: 1 JTAG_TDO/SWO (out), 2 P3[3], 3 JTAG_TDI, 4 JTAG_TMS/SWDIO, 5 JTAG_!TRST, 6 P5[0], 7 JTAG_TCK/SWDCLK, 8 P0[26], 9 P3[4], 10 P0[25], 11 P0[24], 12 P3[5], 13 P0[23], 14 VDDA (power), 15 VSSA (power), 16 P3[6], 17 VREFP (power), 18 60 121 VDD(REG)(3V3) (power), 19 P3[7], 20 !RSTOUT! (out), 21 P5[1], 22 59 119 VSSREG (power), 23 RTCX1, 24 !RESET!, 25 RTCX2 (out), 26 RTC_ALARM (out), 27 VBAT (power), 28 P1[31], 29 P0[12], 30 P1[30], 31 XTAL1, 32 P0[13], 33 XTAL2 (out), 34 P0[28], 35 P0[27], 36 P0[31], 37 USB_D-2, 38 P3[26], 39 P3[25], 40 P3[24], 41 62 77 102 114 138 VDD (power), 42 P0[29], 43 P0[30], 44 65 79 103 117 139 VSS (power), 45 P3[23], 46 P1[18], 47 P1[19], 48 P0[14], 49 P1[20], 50 P1[21], 51 P1[22], 52 P4[0], 53 P1[23], 54 P1[24], 55 P4[1], 56 P1[25], 57 P1[26], 58 P4[2], 61 P1[27], 63 P1[28], 64 P1[29], 66 P0[0], 67 P0[1], 68 P4[3], 69 P0[10], 70 P0[11], 71 P2[13], 72 P4[4], 73 P2[12], 74 P4[5], 75 P2[11], 76 P2[10], 78 P4[6], 80 P0[22], 81 P5[2], 82 P0[21], 83 P0[20], 84 P4[7], 85 P0[19], 86 P0[18], 87 P0[17], 88 P4[8], 89 P0[15], 90 P0[16], 91 P4[9], 92 P2[9], 93 P2[8], 94 P4[10], 95 P2[7], 96 P2[6], 97 P2[5], 98 P5[3], 99 P2[4], 100 P2[3], 101 P4[11], 104 P4[12], 105 P2[2], 106 P2[1], 107 P2[0], 108 P4[13], 109 P0[9], 110 P4[14], 111 P0[8], 112 P0[7], 113 P0[6], 115 P0[5], 116 P0[4], 118 P4[28], 120 P4[15], 122 P4[29], 123 P1[17], 124 P4[25], 125 P1[16], 126 P1[15], 127 P4[24], 128 P1[14], 129 P1[10], 130 P4[30], 131 P1[9], 132 P1[8], 133 P1[4], 134 P4[31], 135 P1[1], 136 P1[0], 137 P3[0], 140 P3[1], 141 P0[2], 142 P0[3], 143 P5[4], 144 P3[2]

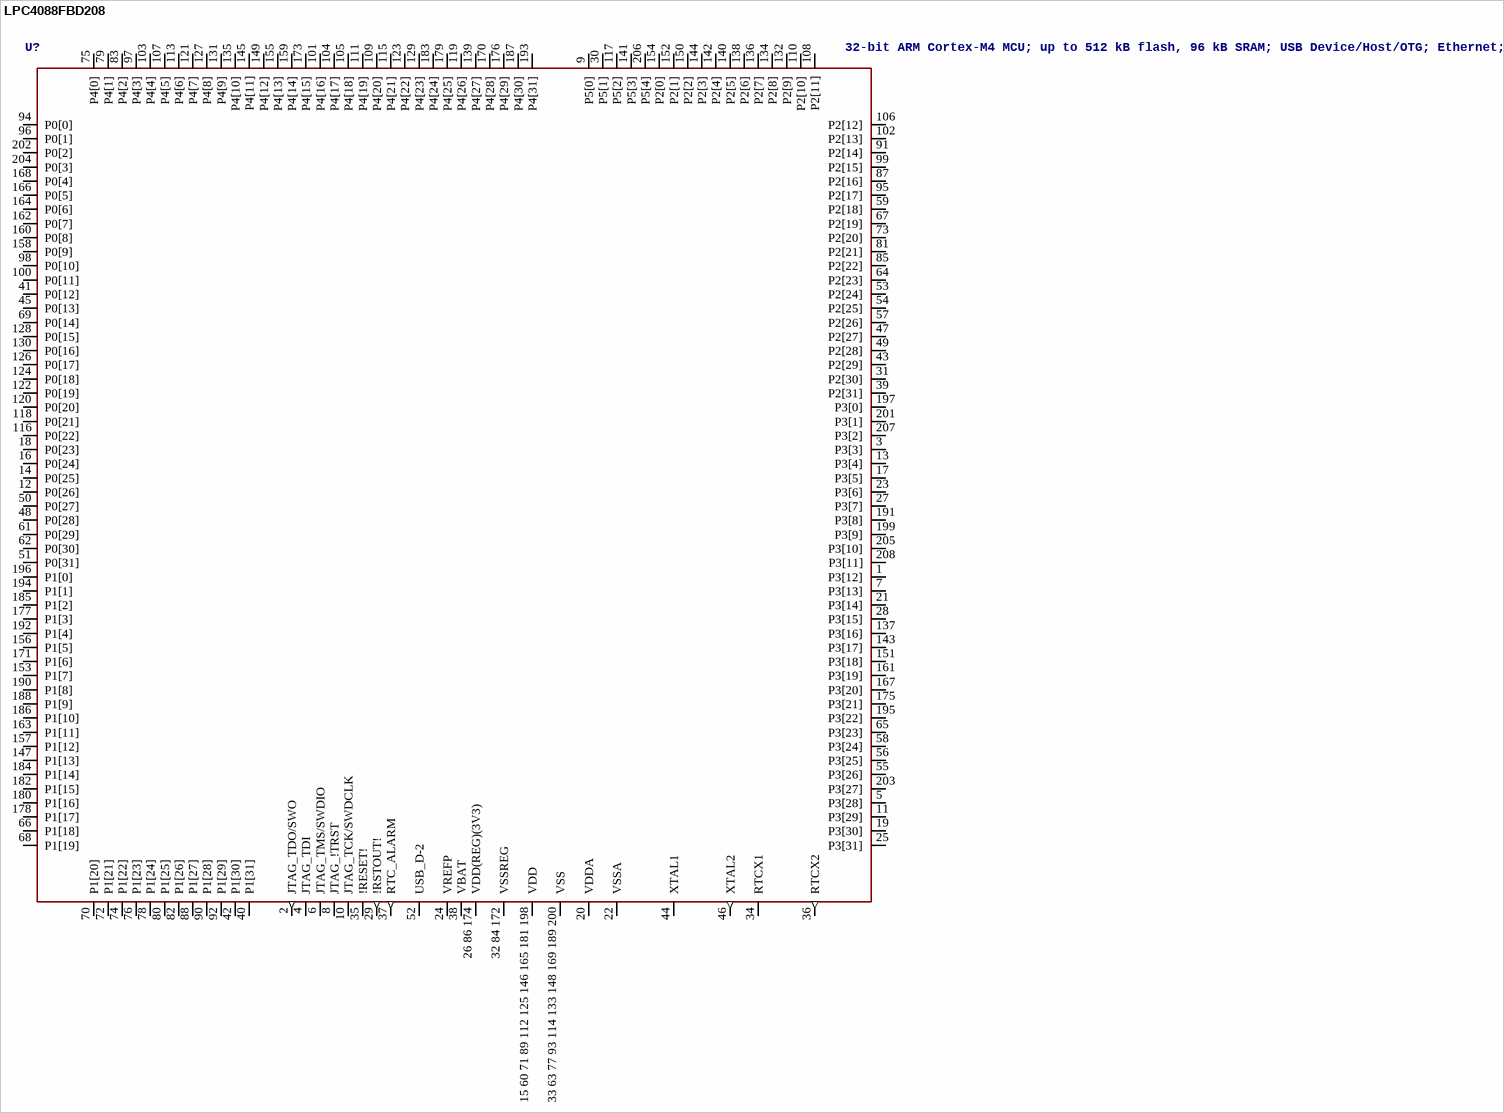
[diagram p127: symbol LPC4088FBD208]

## LPC4088FBD208
designator U?, comment 32-bit ARM Cortex-M4 MCU; up to 512 kB flash, 96 kB SRAM; USB Device/Host/OTG; Ethernet; LCD; EMC; SPIFI The LPC408x/7x is an ARM Cortex-M4 based digital signal controller for embedded applications requiring a high level of integration and low power dissipation. The ARM Cortex-M4 is a next generation core that offers system enhancements such as low power consumption, enhanced debug features, and a high level of support block integration. The ARM Cortex-M4 CPU incorporates a 3-stage pipeline, uses a Harvard architecture with separate local instruction and data buses as well as a third bus for peripherals, and includes an internal prefetch unit that supports speculative branching. The ARM Cortex-M4 supports single-cycle digital signal processing and SIMD instructions. A hardware floating-point processor is integrated in the core for several versions of the part. The LPC408x/7x adds a specialized flash memory accelerator to accomplish optimal performance when executing code from flash. The LPC408x/7x is targeted to operate at up to 120 MHz CPU frequency. The peripheral complement of the LPC408x/7x includes up to 512 kB of flash program memory, up to 96 kB of SRAM data memory, up to 4032 byte of EEPROM data memory, External Memory controller (EMC), LCD, Ethernet, USB Device/Host/OTG, an SPI Flash Interface (SPIFI), a General Purpose DMA controller, five UARTs, three SSP controllers, three I 2 C-bus interfaces, a Quadrature Encoder Interface, four general purpose timers, two general purpose PWMs with six outputs each and one motor control PWM, an ultra-low power RTC with separate battery supply and event recorder, a windowed watchdog timer, a CRC calculation engine and up to 165 general purpose I/O pins. The analog peripherals include one eight-channel 12-bit ADC, two analog comparators, and a DAC. The pinout of LPC408x/7x is intended to allow pin function compatibility with the LPC24xx/23xx as well as the LPC178x/7x families.    AAL Eindhoven MK
footprint SOT459-1
pins: 1 P3[12], 2 JTAG_TDO/SWO (out), 3 P3[3], 4 JTAG_TDI, 5 P3[28], 6 JTAG_TMS/SWDIO, 7 P3[13], 8 JTAG_!TRST, 9 P5[0], 10 JTAG_TCK/SWDCLK, 11 P3[29], 12 P0[26], 13 P3[4], 14 P0[25], 15 60 71 89 112 125 146 165 181 198 VDD (power), 16 P0[24], 17 P3[5], 18 P0[23], 19 P3[30], 20 VDDA (power), 21 P3[14], 22 VSSA (power), 23 P3[6], 24 VREFP (power), 25 P3[31], 26 86 174 VDD(REG)(3V3) (power), 27 P3[7], 28 P3[15], 29 !RSTOUT! (out), 30 P5[1], 31 P2[30], 32 84 172 VSSREG (power), 33 63 77 93 114 133 148 169 189 200 VSS (power), 34 RTCX1, 35 !RESET!, 36 RTCX2 (out), 37 RTC_ALARM (out), 38 VBAT (power), 39 P2[31], 40 P1[31], 41 P0[12], 42 P1[30], 43 P2[29], 44 XTAL1, 45 P0[13], 46 XTAL2 (out), 47 P2[27], 48 P0[28], 49 P2[28], 50 P0[27], 51 P0[31], 52 USB_D-2, 53 P2[24], 54 P2[25], 55 P3[26], 56 P3[25], 57 P2[26], 58 P3[24], 59 P2[18], 61 P0[29], 62 P0[30], 64 P2[23], 65 P3[23], 66 P1[18], 67 P2[19], 68 P1[19], 69 P0[14], 70 P1[20], 72 P1[21], 73 P2[20], 74 P1[22], 75 P4[0], 76 P1[23], 78 P1[24], 79 P4[1], 80 P1[25], 81 P2[21], 82 P1[26], 83 P4[2], 85 P2[22], 87 P2[16], 88 P1[27], 90 P1[28], 91 P2[14], 92 P1[29], 94 P0[0], 95 P2[17], 96 P0[1], 97 P4[3], 98 P0[10], 99 P2[15], 100 P0[11], 101 P4[16], 102 P2[13], 103 P4[4], 104 P4[17], 105 P4[18], 106 P2[12], 107 P4[5], 108 P2[11], 109 P4[20], 110 P2[10], 111 P4[19], 113 P4[6], 115 P4[21], 116 P0[22], 117 P5[2], 118 P0[21], 119 P4[26], 120 P0[20], 121 P4[7], 122 P0[19], 123 P4[22], 124 P0[18], 126 P0[17], 127 P4[8], 128 P0[15], 129 P4[23], 130 P0[16], 131 P4[9], 132 P2[9], 134 P2[8], 135 P4[10], 136 P2[7], 137 P3[16], 138 P2[6], 139 P4[27], 140 P2[5], 141 P5[3], 142 P2[4], 143 P3[17], 144 P2[3], 145 P4[11], 147 P1[13], 149 P4[12], 150 P2[2], 151 P3[18], 152 P2[1], 153 P1[7], 154 P2[0], 155 P4[13], 156 P1[5], 157 P1[12], 158 P0[9], 159 P4[14], 160 P0[8], 161 P3[19], 162 P0[7], 163 P1[11], 164 P0[6], 166 P0[5], 167 P3[20], 168 P0[4], 170 P4[28], 171 P1[6], 173 P4[15], 175 P3[21], 176 P4[29], 177 P1[3], 178 P1[17], 179 P4[25], 180 P1[16], 182 P1[15], 183 P4[24], 184 P1[14], 185 P1[2], 186 P1[10], 187 P4[30], 188 P1[9], 190 P1[8], 191 P3[8], 192 P1[4], 193 P4[31], 194 P1[1], 195 P3[22], 196 P1[0], 197 P3[0], 199 P3[9], 201 P3[1], 202 P0[2], 203 P3[27], 204 P0[3], 205 P3[10], 206 P5[4], 207 P3[2], 208 P3[11]

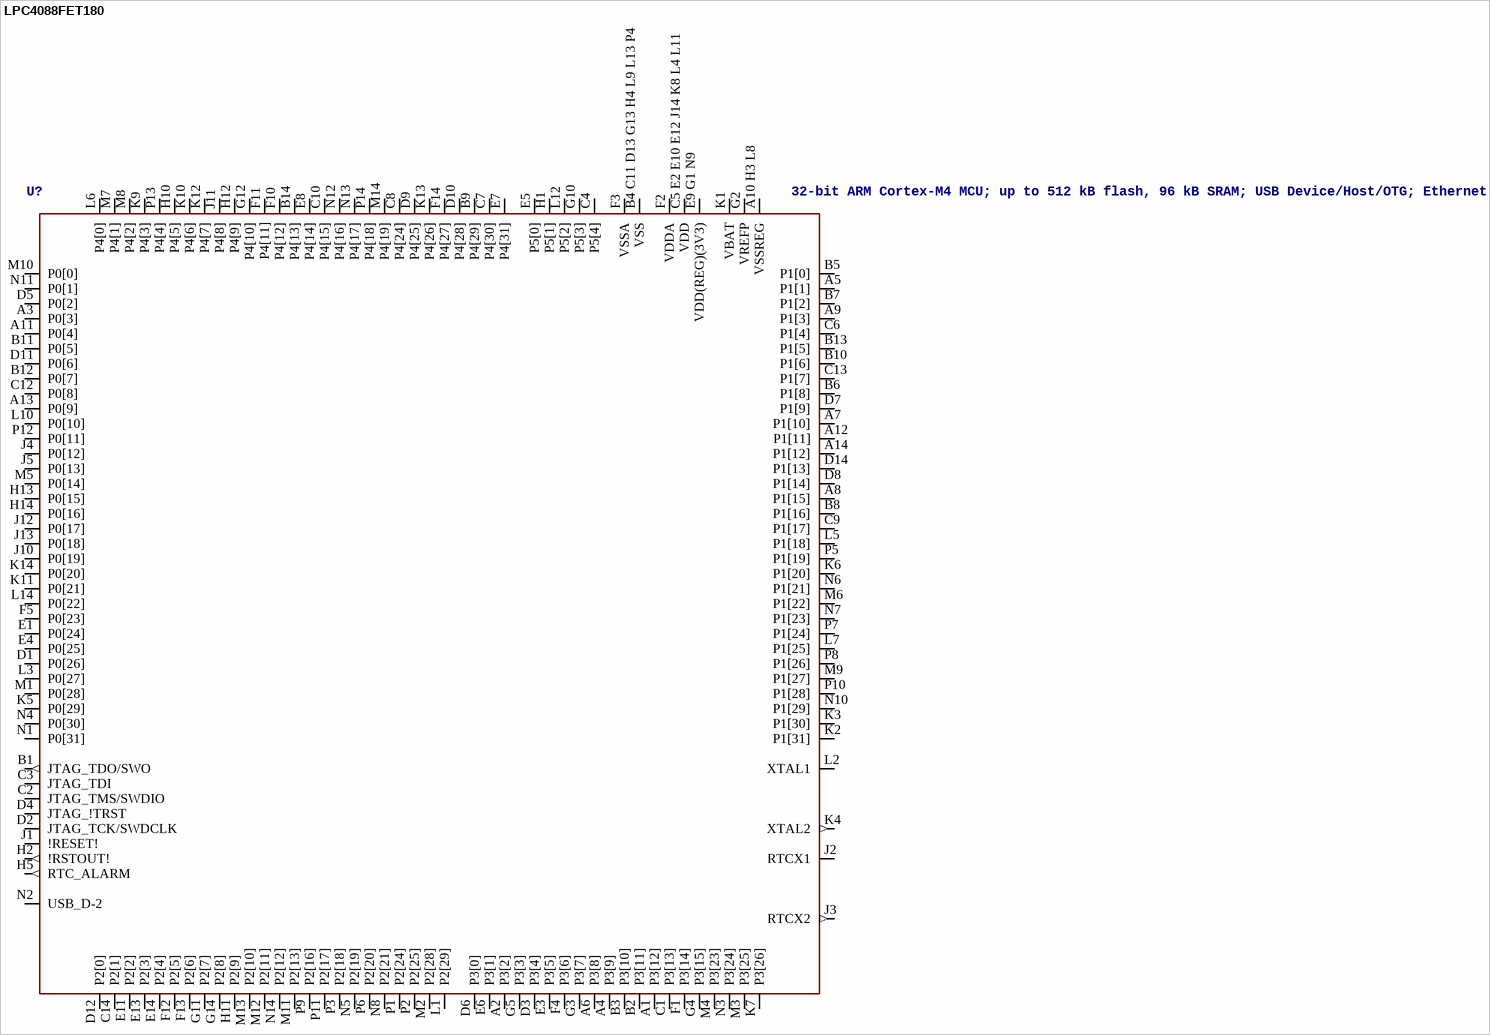
[diagram p128: symbol LPC4088FET180]

## LPC4088FET180
designator U?, comment 32-bit ARM Cortex-M4 MCU; up to 512 kB flash, 96 kB SRAM; USB Device/Host/OTG; Ethernet; LCD; EMC; SPIFI The LPC408x/7x is an ARM Cortex-M4 based digital signal controller for embedded applications requiring a high level of integration and low power dissipation. The ARM Cortex-M4 is a next generation core that offers system enhancements such as low power consumption, enhanced debug features, and a high level of support block integration. The ARM Cortex-M4 CPU incorporates a 3-stage pipeline, uses a Harvard architecture with separate local instruction and data buses as well as a third bus for peripherals, and includes an internal prefetch unit that supports speculative branching. The ARM Cortex-M4 supports single-cycle digital signal processing and SIMD instructions. A hardware floating-point processor is integrated in the core for several versions of the part. The LPC408x/7x adds a specialized flash memory accelerator to accomplish optimal performance when executing code from flash. The LPC408x/7x is targeted to operate at up to 120 MHz CPU frequency. The peripheral complement of the LPC408x/7x includes up to 512 kB of flash program memory, up to 96 kB of SRAM data memory, up to 4032 byte of EEPROM data memory, External Memory controller (EMC), LCD, Ethernet, USB Device/Host/OTG, an SPI Flash Interface (SPIFI), a General Purpose DMA controller, five UARTs, three SSP controllers, three I 2 C-bus interfaces, a Quadrature Encoder Interface, four general purpose timers, two general purpose PWMs with six outputs each and one motor control PWM, an ultra-low power RTC with separate battery supply and event recorder, a windowed watchdog timer, a CRC calculation engine and up to 165 general purpose I/O pins. The analog peripherals include one eight-channel 12-bit ADC, two analog comparators, and a DAC. The pinout of LPC408x/7x is intended to allow pin function compatibility with the LPC24xx/23xx as well as the LPC178x/7x families.    AAL Eindhoven MK
footprint SOT570-2
pins: A1 P3[12], A2 P3[2], A3 P0[3], A4 P3[9], A5 P1[1], A6 P3[8], A7 P1[10], A8 P1[15], A9 P1[3], A10 H3 L8 VSSREG (power), A11 P0[4], A12 P1[11], A13 P0[9], A14 P1[12], B1 JTAG_TDO/SWO (out), B2 P3[11], B3 P3[10], B4 C11 D13 G13 H4 L9 L13 P4 VSS (power), B5 P1[0], B6 P1[8], B7 P1[2], B8 P1[16], B9 P4[29], B10 P1[6], B11 P0[5], B12 P0[7], B13 P1[5], B14 P4[13], C1 P3[13], C2 JTAG_TMS/SWDIO, C3 JTAG_TDI, C4 P5[4], C5 E2 E10 E12 J14 K8 L4 L11 VDD (power), C6 P1[4], C7 P4[30], C8 P4[24], C9 P1[17], C10 P4[15], C12 P0[8], C13 P1[7], C14 P2[1], D1 P0[26], D2 JTAG_TCK/SWDCLK, D3 P3[4], D4 JTAG_!TRST, D5 P0[2], D6 P3[0], D7 P1[9], D8 P1[14], D9 P4[25], D10 P4[28], D11 P0[6], D12 P2[0], D14 P1[13], E1 P0[24], E3 P3[5], E4 P0[25], E5 P5[0], E6 P3[1], E7 P4[31], E8 P4[14], E9 G1 N9 VDD(REG)(3V3) (power), E11 P2[2], E13 P2[3], E14 P2[4], F1 P3[14], F2 VDDA (power), F3 VSSA (power), F4 P3[6], F5 P0[23], F10 P4[12], F11 P4[11], F12 P2[5], F13 P2[6], F14 P4[27], G2 VREFP (power), G3 P3[7], G4 P3[15], G5 P3[3], G10 P5[3], G11 P2[7], G12 P4[10], G14 P2[8], H1 P5[1], H2 !RSTOUT! (out), H5 RTC_ALARM (out), H10 P4[5], H11 P2[9], H12 P4[9], H13 P0[15], H14 P0[16], J1 !RESET!, J2 RTCX1, J3 RTCX2 (out), J4 P0[12], J5 P0[13], J10 P0[19], J11 P4[8], J12 P0[17], J13 P0[18], K1 VBAT (power), K2 P1[31], K3 P1[30], K4 XTAL2 (out), K5 P0[29], K6 P1[20], K7 P3[26], K9 P4[3], K10 P4[6], K11 P0[21], K12 P4[7], K13 P4[26], K14 P0[20], L1 P2[29], L2 XTAL1, L3 P0[27], L5 P1[18], L6 P4[0], L7 P1[25], L10 P0[10], L12 P5[2], L14 P0[22], M1 P0[28], M2 P2[28], M3 P3[25], M4 P3[23], M5 P0[14], M6 P1[22], M7 P4[1], M8 P4[2], M9 P1[27], M10 P0[0], M11 P2[13], M12 P2[11], M13 P2[10], M14 P4[19], N1 P0[31], N2 USB_D-2, N3 P3[24], N4 P0[30], N5 P2[19], N6 P1[21], N7 P1[23], N8 P2[21], N10 P1[29], N11 P0[1], N12 P4[16], N13 P4[17], N14 P2[12], P1 P2[24], P2 P2[25], P3 P2[18], P5 P1[19], P6 P2[20], P7 P1[24], P8 P1[26], P9 P2[16], P10 P1[28], P11 P2[17], P12 P0[11], P13 P4[4], P14 P4[18]

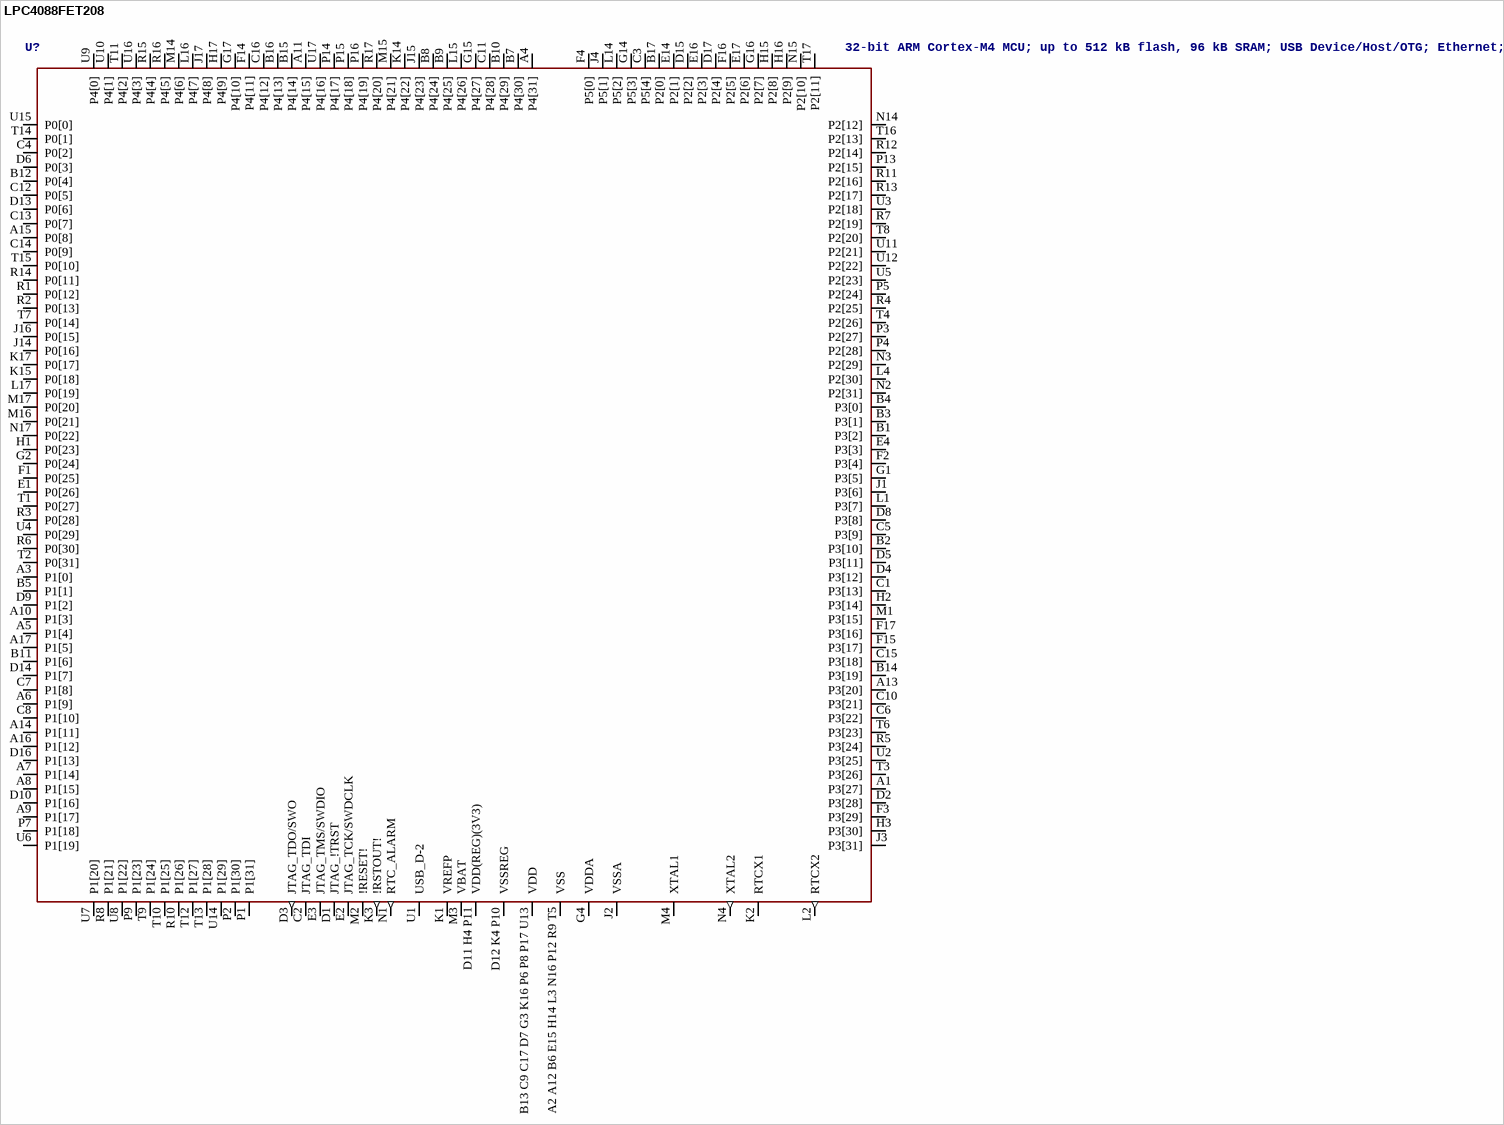
[diagram p129: symbol LPC4088FET208]

## LPC4088FET208
designator U?, comment 32-bit ARM Cortex-M4 MCU; up to 512 kB flash, 96 kB SRAM; USB Device/Host/OTG; Ethernet; LCD; EMC; SPIFI The LPC408x/7x is an ARM Cortex-M4 based digital signal controller for embedded applications requiring a high level of integration and low power dissipation. The ARM Cortex-M4 is a next generation core that offers system enhancements such as low power consumption, enhanced debug features, and a high level of support block integration. The ARM Cortex-M4 CPU incorporates a 3-stage pipeline, uses a Harvard architecture with separate local instruction and data buses as well as a third bus for peripherals, and includes an internal prefetch unit that supports speculative branching. The ARM Cortex-M4 supports single-cycle digital signal processing and SIMD instructions. A hardware floating-point processor is integrated in the core for several versions of the part. The LPC408x/7x adds a specialized flash memory accelerator to accomplish optimal performance when executing code from flash. The LPC408x/7x is targeted to operate at up to 120 MHz CPU frequency. The peripheral complement of the LPC408x/7x includes up to 512 kB of flash program memory, up to 96 kB of SRAM data memory, up to 4032 byte of EEPROM data memory, External Memory controller (EMC), LCD, Ethernet, USB Device/Host/OTG, an SPI Flash Interface (SPIFI), a General Purpose DMA controller, five UARTs, three SSP controllers, three I 2 C-bus interfaces, a Quadrature Encoder Interface, four general purpose timers, two general purpose PWMs with six outputs each and one motor control PWM, an ultra-low power RTC with separate battery supply and event recorder, a windowed watchdog timer, a CRC calculation engine and up to 165 general purpose I/O pins. The analog peripherals include one eight-channel 12-bit ADC, two analog comparators, and a DAC. The pinout of LPC408x/7x is intended to allow pin function compatibility with the LPC24xx/23xx as well as the LPC178x/7x families.    AAL Eindhoven MK
footprint SOT950-1
pins: A1 P3[27], A2 A12 B6 E15 H14 L3 N16 P12 R9 T5 VSS (power), A3 P1[0], A4 P4[31], A5 P1[4], A6 P1[9], A7 P1[14], A8 P1[15], A9 P1[17], A10 P1[3], A11 P4[15], A13 P3[20], A14 P1[11], A15 P0[8], A16 P1[12], A17 P1[5], B1 P3[2], B2 P3[10], B3 P3[1], B4 P3[0], B5 P1[1], B7 P4[30], B8 P4[24], B9 P4[25], B10 P4[29], B11 P1[6], B12 P0[4], B13 C9 C17 D7 G3 K16 P6 P8 P17 U13 VDD (power), B14 P3[19], B15 P4[14], B16 P4[13], B17 P2[0], C1 P3[13], C2 JTAG_TDI, C3 P5[4], C4 P0[2], C5 P3[9], C6 P3[22], C7 P1[8], C8 P1[10], C10 P3[21], C11 P4[28], C12 P0[5], C13 P0[7], C14 P0[9], C15 P3[18], C16 P4[12], D1 JTAG_!TRST, D2 P3[28], D3 JTAG_TDO/SWO (out), D4 P3[12], D5 P3[11], D6 P0[3], D8 P3[8], D9 P1[2], D10 P1[16], D11 H4 P11 VDD(REG)(3V3) (power), D12 K4 P10 VSSREG (power), D13 P0[6], D14 P1[7], D15 P2[2], D16 P1[13], D17 P2[4], E1 P0[26], E2 JTAG_TCK/SWDCLK, E3 JTAG_TMS/SWDIO, E4 P3[3], E14 P2[1], E16 P2[3], E17 P2[6], F1 P0[25], F2 P3[4], F3 P3[29], F4 P5[0], F14 P4[11], F15 P3[17], F16 P2[5], F17 P3[16], G1 P3[5], G2 P0[24], G4 VDDA (power), G14 P5[3], G15 P4[27], G16 P2[7], G17 P4[10], H1 P0[23], H2 P3[14], H3 P3[30], H15 P2[8], H16 P2[9], H17 P4[9], J1 P3[6], J2 VSSA (power), J3 P3[31], J4 P5[1], J14 P0[16], J15 P4[23], J16 P0[15], J17 P4[8], K1 VREFP (power), K2 RTCX1, K3 !RSTOUT! (out), K14 P4[22], K15 P0[18], K17 P0[17], L1 P3[7], L2 RTCX2 (out), L4 P2[30], L14 P5[2], L15 P4[26], L16 P4[7], L17 P0[19], M1 P3[15], M2 !RESET!, M3 VBAT (power), M4 XTAL1, M14 P4[6], M15 P4[21], M16 P0[21], M17 P0[20], N1 RTC_ALARM (out), N2 P2[31], N3 P2[29], N4 XTAL2 (out), N14 P2[12], N15 P2[10], N17 P0[22], P1 P1[31], P2 P1[30], P3 P2[27], P4 P2[28], P5 P2[24], P7 P1[18], P9 P1[23], P13 P2[15], P14 P4[17], P15 P4[18], P16 P4[19], R1 P0[12], R2 P0[13], R3 P0[28], R4 P2[25], R5 P3[24], R6 P0[30], R7 P2[19], R8 P1[21], R10 P1[26], R11 P2[16], R12 P2[14], R13 P2[17], R14 P0[11], R15 P4[4], R16 P4[5], R17 P4[20], T1 P0[27], T2 P0[31], T3 P3[26], T4 P2[26], T6 P3[23], T7 P0[14], T8 P2[20], T9 P1[24], T10 P1[25], T11 P4[2], T12 P1[27], T13 P1[28], T14 P0[1], T15 P0[10], T16 P2[13], T17 P2[11], U1 USB_D-2, U2 P3[25], U3 P2[18], U4 P0[29], U5 P2[23], U6 P1[19], U7 P1[20], U8 P1[22], U9 P4[0], U10 P4[1], U11 P2[21], U12 P2[22], U14 P1[29], U15 P0[0], U16 P4[3], U17 P4[16]

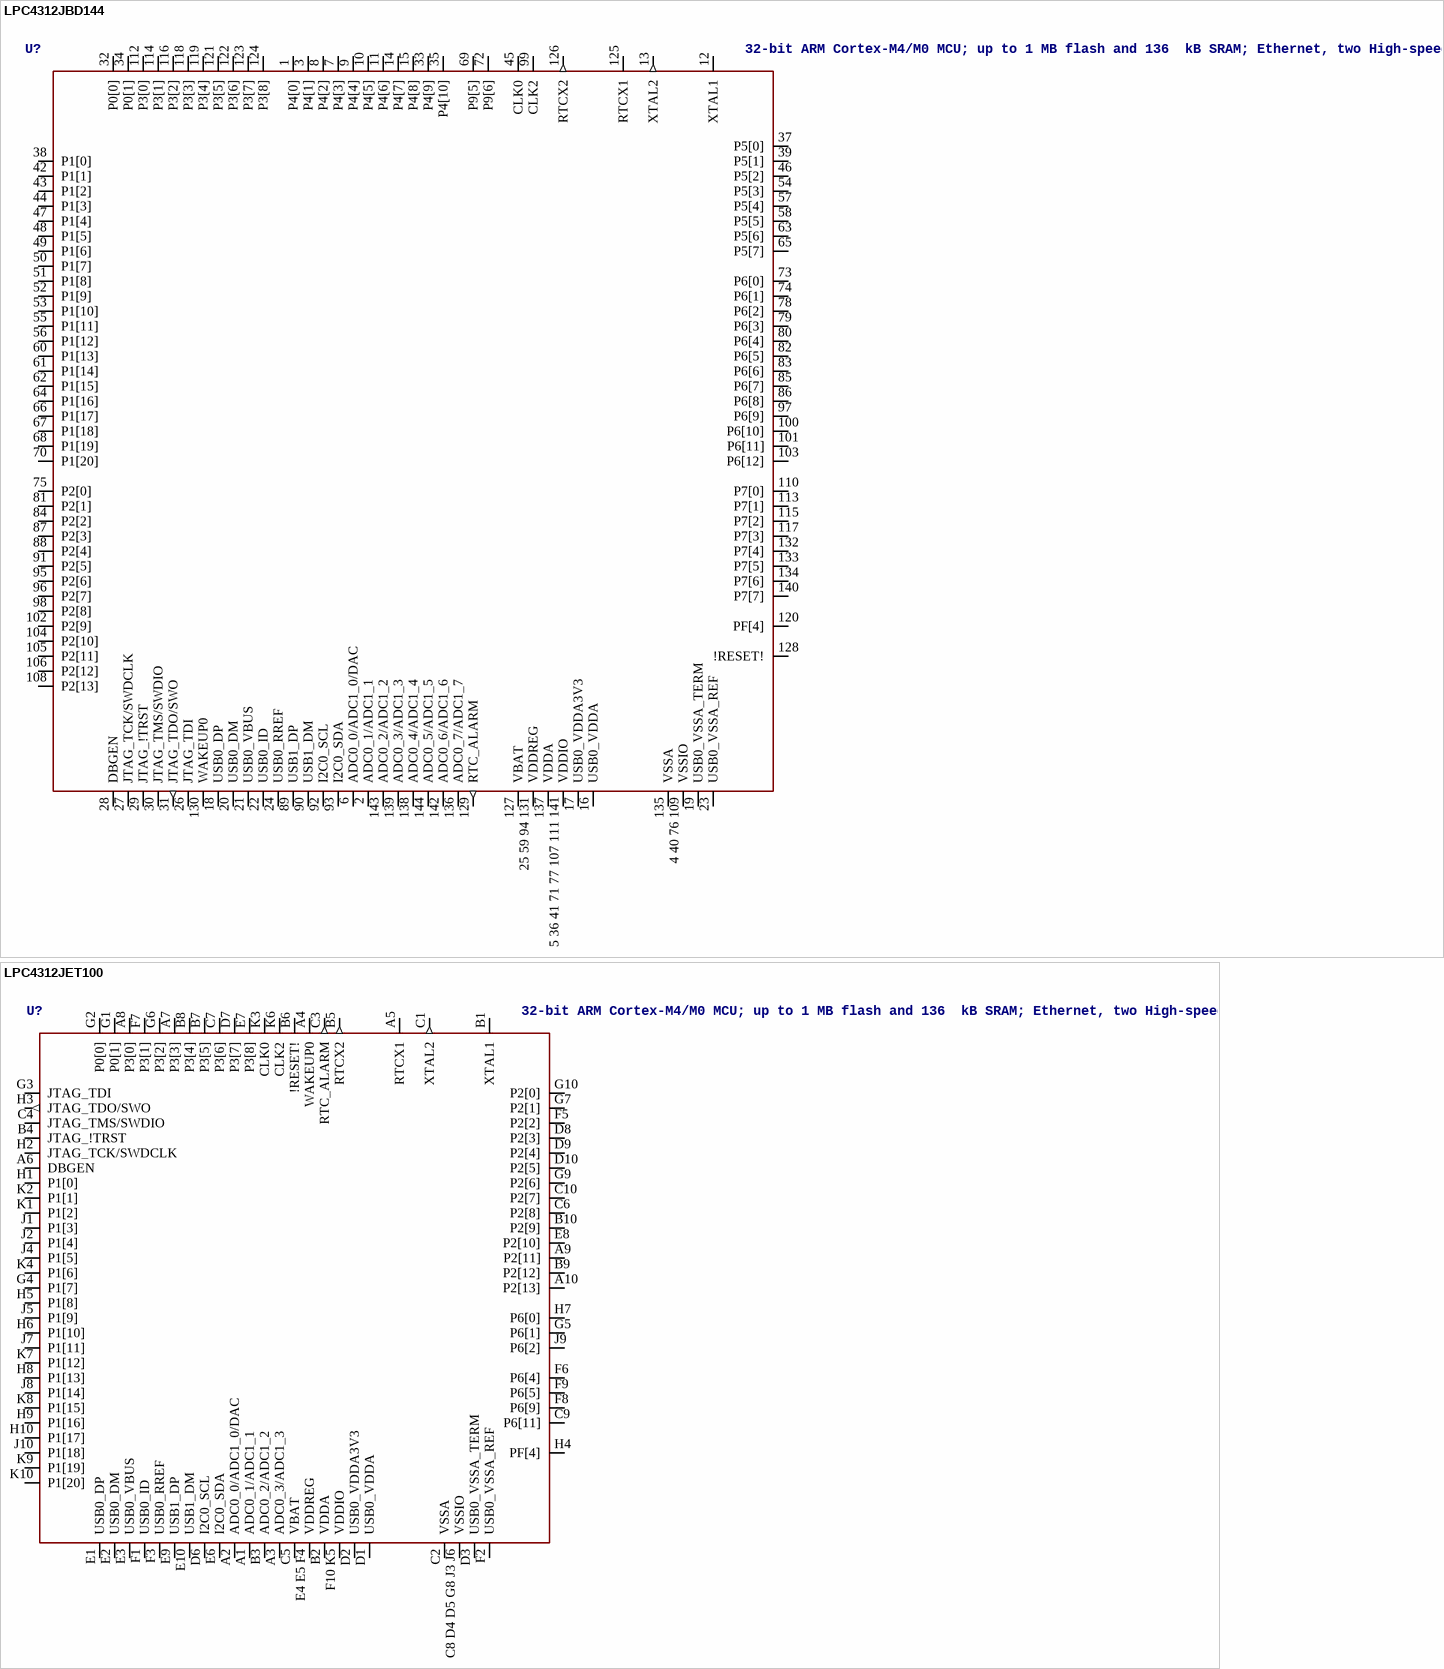
[diagram p130: symbols LPC4312JBD144 to LPC4312JET100]

## LPC4312JBD144
designator U?, comment 32-bit ARM Cortex-M4/M0 MCU; up to 1 MB flash and 136  kB SRAM; Ethernet, two High-speed USB, LCD, EMC The LPC435x/3x/2x/1x are ARM Cortex-M4 based microcontrollers for embedded applications which include an ARM Cortex-M0 coprocessor, up to 1 MB of flash and 136 kB of on-chip SRAM, 16 kB of EEPROM memory, a quad SPI Flash Interface (SPIFI), advanced configurable peripherals such as the State Configurable Timer (SCT) and the Serial General Purpose I/O (SGPIO) interface, two High-speed USB controllers, Ethernet, LCD, an external memory controller, and multiple digital and analog peripherals. The LPC435x/3x/2x/1x operate at CPU frequencies of up to 204 MHz. The ARM Cortex-M4 is a next generation 32-bit core that offers system enhancements such as low power consumption, enhanced debug features, and a high level of support block integration. The ARM Cortex-M4 CPU incorporates a 3-stage pipeline, uses a Harvard architecture with separate local instruction and data buses as well as a third bus for peripherals, and includes an internal prefetch unit that supports speculative branching. The ARM Cortex-M4 supports single-cycle digital signal processing and SIMD instructions. A hardware floating-point unit is integrated in the core. The ARM Cortex-M0 coprocessor is an energy-efficient and easy-to-use 32-bit core which is upward code- and tool-compatible with the Cortex-M4 core. The Cortex-M0 coprocessor, designed as a replacement for existing 8/16-bit microcontrollers, offers up to 204 MHz performance with a simple instruction set and reduced code size.    AAL Eindhoven MK
footprint SOT486-1
pins: 1 P4[0], 2 ADC0_1/ADC1_1, 3 P4[1], 4 40 76 109 VSSIO (power), 5 36 41 71 77 107 111 141 VDDIO (power), 6 ADC0_0/ADC1_0/DAC, 7 P4[3], 8 P4[2], 9 P4[4], 10 P4[5], 11 P4[6], 12 XTAL1, 13 XTAL2 (out), 14 P4[7], 15 P4[8], 16 USB0_VDDA (power), 17 USB0_VDDA3V3 (power), 18 USB0_DP, 19 USB0_VSSA_TERM (power), 20 USB0_DM, 21 USB0_VBUS, 22 USB0_ID, 23 USB0_VSSA_REF (power), 24 USB0_RREF, 25 59 94 131 VDDREG (power), 26 JTAG_TDI, 27 JTAG_TCK/SWDCLK, 28 DBGEN, 29 JTAG_!TRST, 30 JTAG_TMS/SWDIO, 31 JTAG_TDO/SWO (out), 32 P0[0], 33 P4[9], 34 P0[1], 35 P4[10], 37 P5[0], 38 P1[0], 39 P5[1], 42 P1[1], 43 P1[2], 44 P1[3], 45 CLK0, 46 P5[2], 47 P1[4], 48 P1[5], 49 P1[6], 50 P1[7], 51 P1[8], 52 P1[9], 53 P1[10], 54 P5[3], 55 P1[11], 56 P1[12], 57 P5[4], 58 P5[5], 60 P1[13], 61 P1[14], 62 P1[15], 63 P5[6], 64 P1[16], 65 P5[7], 66 P1[17], 67 P1[18], 68 P1[19], 69 P9[5], 70 P1[20], 72 P9[6], 73 P6[0], 74 P6[1], 75 P2[0], 78 P6[2], 79 P6[3], 80 P6[4], 81 P2[1], 82 P6[5], 83 P6[6], 84 P2[2], 85 P6[7], 86 P6[8], 87 P2[3], 88 P2[4], 89 USB1_DP, 90 USB1_DM, 91 P2[5], 92 I2C0_SCL, 93 I2C0_SDA, 95 P2[6], 96 P2[7], 97 P6[9], 98 P2[8], 99 CLK2, 100 P6[10], 101 P6[11], 102 P2[9], 103 P6[12], 104 P2[10], 105 P2[11], 106 P2[12], 108 P2[13], 110 P7[0], 112 P3[0], 113 P7[1], 114 P3[1], 115 P7[2], 116 P3[2], 117 P7[3], 118 P3[3], 119 P3[4], 120 PF[4], 121 P3[5], 122 P3[6], 123 P3[7], 124 P3[8], 125 RTCX1, 126 RTCX2 (out), 127 VBAT (power), 128 !RESET!, 129 RTC_ALARM (out), 130 WAKEUP0, 132 P7[4], 133 P7[5], 134 P7[6], 135 VSSA (power), 136 ADC0_7/ADC1_7, 137 VDDA (power), 138 ADC0_4/ADC1_4, 139 ADC0_3/ADC1_3, 140 P7[7], 142 ADC0_6/ADC1_6, 143 ADC0_2/ADC1_2, 144 ADC0_5/ADC1_5

## LPC4312JET100
designator U?, comment 32-bit ARM Cortex-M4/M0 MCU; up to 1 MB flash and 136  kB SRAM; Ethernet, two High-speed USB, LCD, EMC The LPC435x/3x/2x/1x are ARM Cortex-M4 based microcontrollers for embedded applications which include an ARM Cortex-M0 coprocessor, up to 1 MB of flash and 136 kB of on-chip SRAM, 16 kB of EEPROM memory, a quad SPI Flash Interface (SPIFI), advanced configurable peripherals such as the State Configurable Timer (SCT) and the Serial General Purpose I/O (SGPIO) interface, two High-speed USB controllers, Ethernet, LCD, an external memory controller, and multiple digital and analog peripherals. The LPC435x/3x/2x/1x operate at CPU frequencies of up to 204 MHz. The ARM Cortex-M4 is a next generation 32-bit core that offers system enhancements such as low power consumption, enhanced debug features, and a high level of support block integration. The ARM Cortex-M4 CPU incorporates a 3-stage pipeline, uses a Harvard architecture with separate local instruction and data buses as well as a third bus for peripherals, and includes an internal prefetch unit that supports speculative branching. The ARM Cortex-M4 supports single-cycle digital signal processing and SIMD instructions. A hardware floating-point unit is integrated in the core. The ARM Cortex-M0 coprocessor is an energy-efficient and easy-to-use 32-bit core which is upward code- and tool-compatible with the Cortex-M4 core. The Cortex-M0 coprocessor, designed as a replacement for existing 8/16-bit microcontrollers, offers up to 204 MHz performance with a simple instruction set and reduced code size.    AAL Eindhoven MK
footprint SOT926-1
pins: A1 ADC0_1/ADC1_1, A2 ADC0_0/ADC1_0/DAC, A3 ADC0_3/ADC1_3, A4 WAKEUP0, A5 RTCX1, A6 DBGEN, A7 P3[3], A8 P3[0], A9 P2[11], A10 P2[13], B1 XTAL1, B2 VDDA (power), B3 ADC0_2/ADC1_2, B4 JTAG_!TRST, B5 RTCX2 (out), B6 !RESET!, B7 P3[5], B8 P3[4], B9 P2[12], B10 P2[9], C1 XTAL2 (out), C2 VSSA (power), C3 RTC_ALARM (out), C4 JTAG_TMS/SWDIO, C5 VBAT (power), C6 P2[8], C7 P3[6], C8 D4 D5 G8 J3 J6 VSSIO (power), C9 P6[11], C10 P2[7], D1 USB0_VDDA (power), D2 USB0_VDDA3V3 (power), D3 USB0_VSSA_TERM (power), D6 I2C0_SCL, D7 P3[7], D8 P2[3], D9 P2[4], D10 P2[5], E1 USB0_DP, E2 USB0_DM, E3 USB0_VBUS, E4 E5 F4 VDDREG (power), E6 I2C0_SDA, E7 P3[8], E8 P2[10], E9 USB1_DP, E10 USB1_DM, F1 USB0_ID, F2 USB0_VSSA_REF (power), F3 USB0_RREF, F5 P2[2], F6 P6[4], F7 P3[1], F8 P6[9], F9 P6[5], F10 K5 VDDIO (power), G1 P0[1], G2 P0[0], G3 JTAG_TDI, G4 P1[7], G5 P6[1], G6 P3[2], G7 P2[1], G9 P2[6], G10 P2[0], H1 P1[0], H2 JTAG_TCK/SWDCLK, H3 JTAG_TDO/SWO (out), H4 PF[4], H5 P1[8], H6 P1[10], H7 P6[0], H8 P1[13], H9 P1[16], H10 P1[17], J1 P1[3], J2 P1[4], J4 P1[5], J5 P1[9], J7 P1[11], J8 P1[14], J9 P6[2], J10 P1[18], K1 P1[2], K2 P1[1], K3 CLK0, K4 P1[6], K6 CLK2, K7 P1[12], K8 P1[15], K9 P1[19], K10 P1[20]

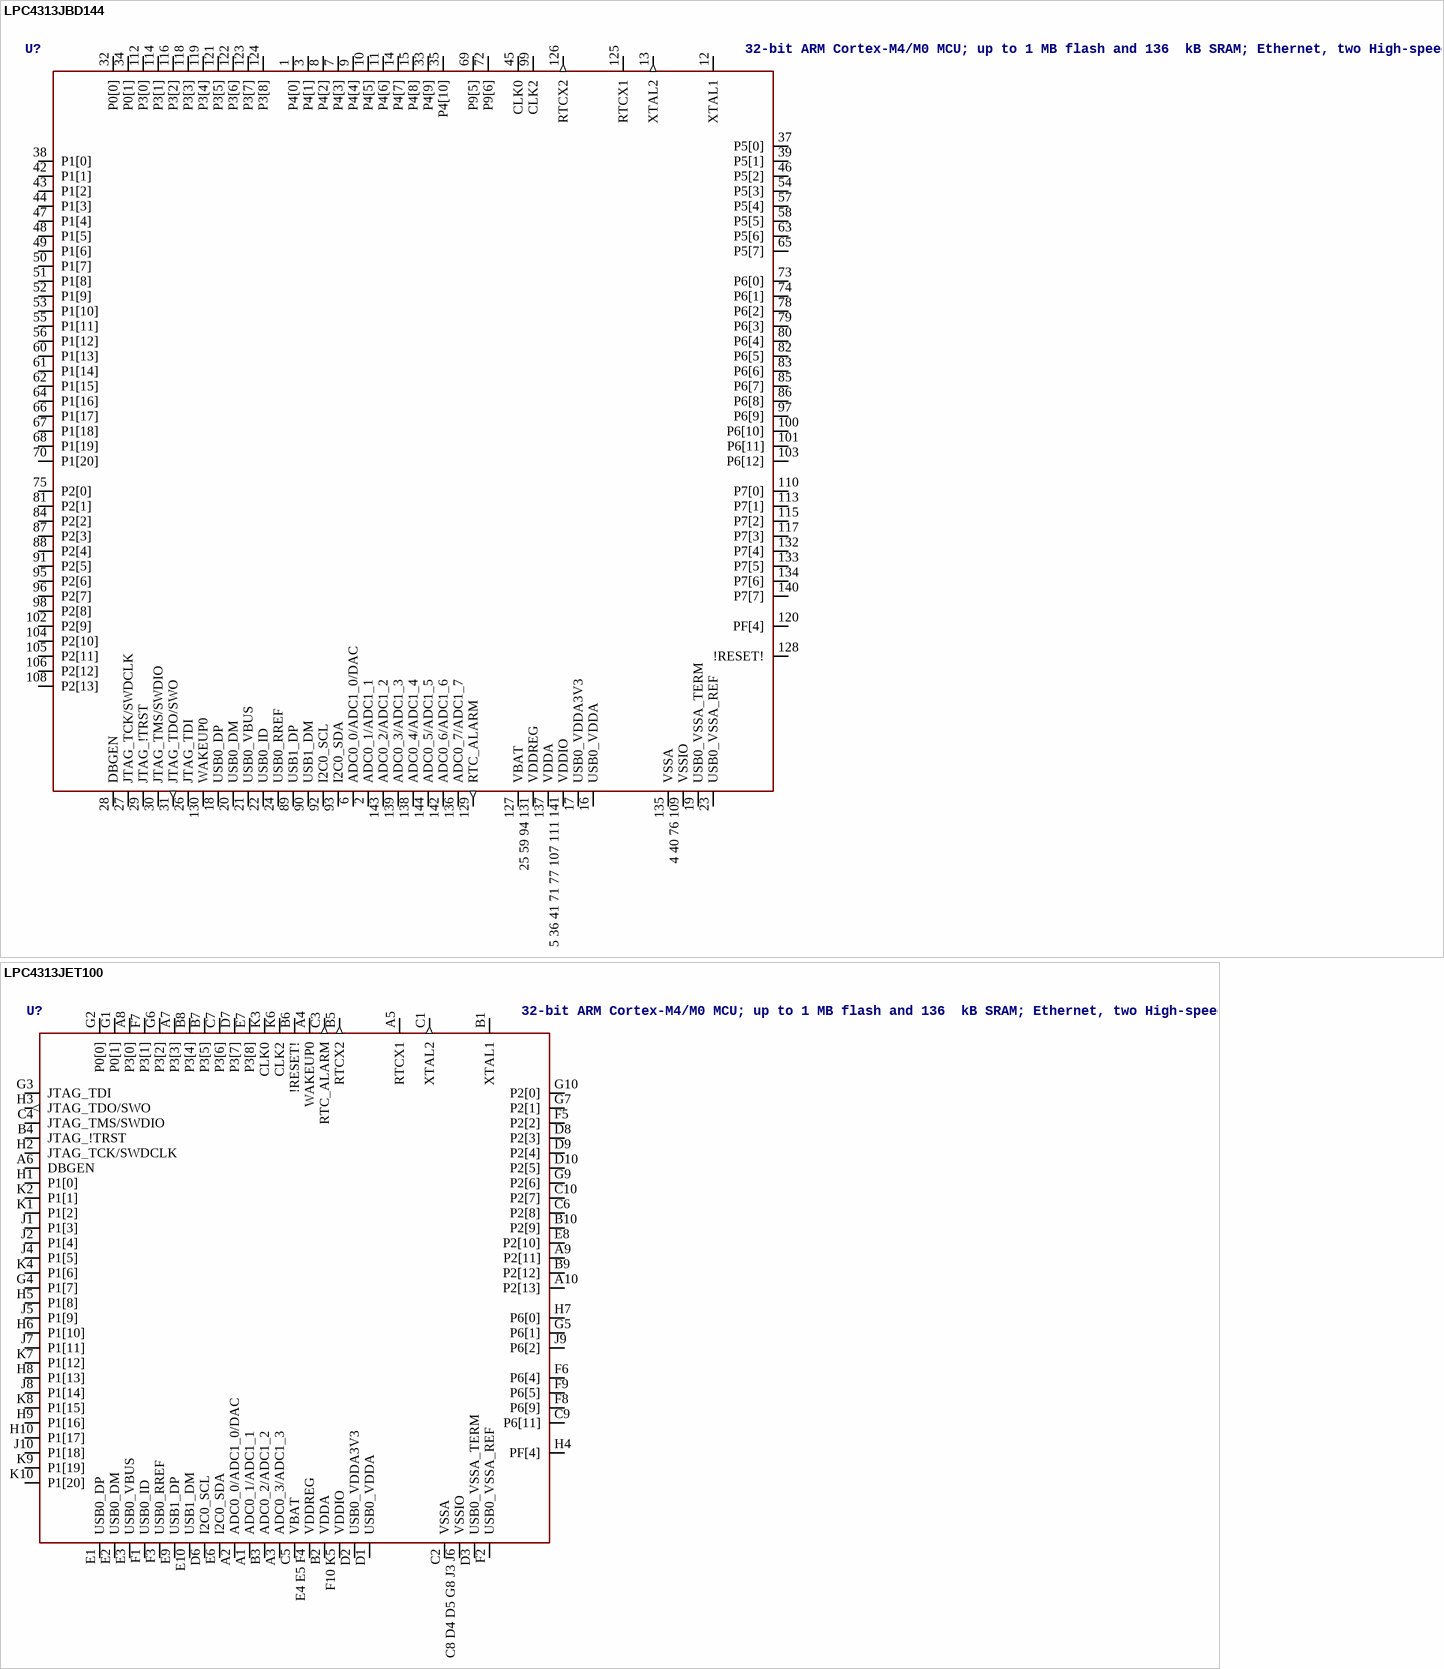
[diagram p131: symbols LPC4313JBD144 to LPC4313JET100]